# Altium integrated library Lattice CPLD ispMACH.IntLib: 663 symbols (part 24 of 48)
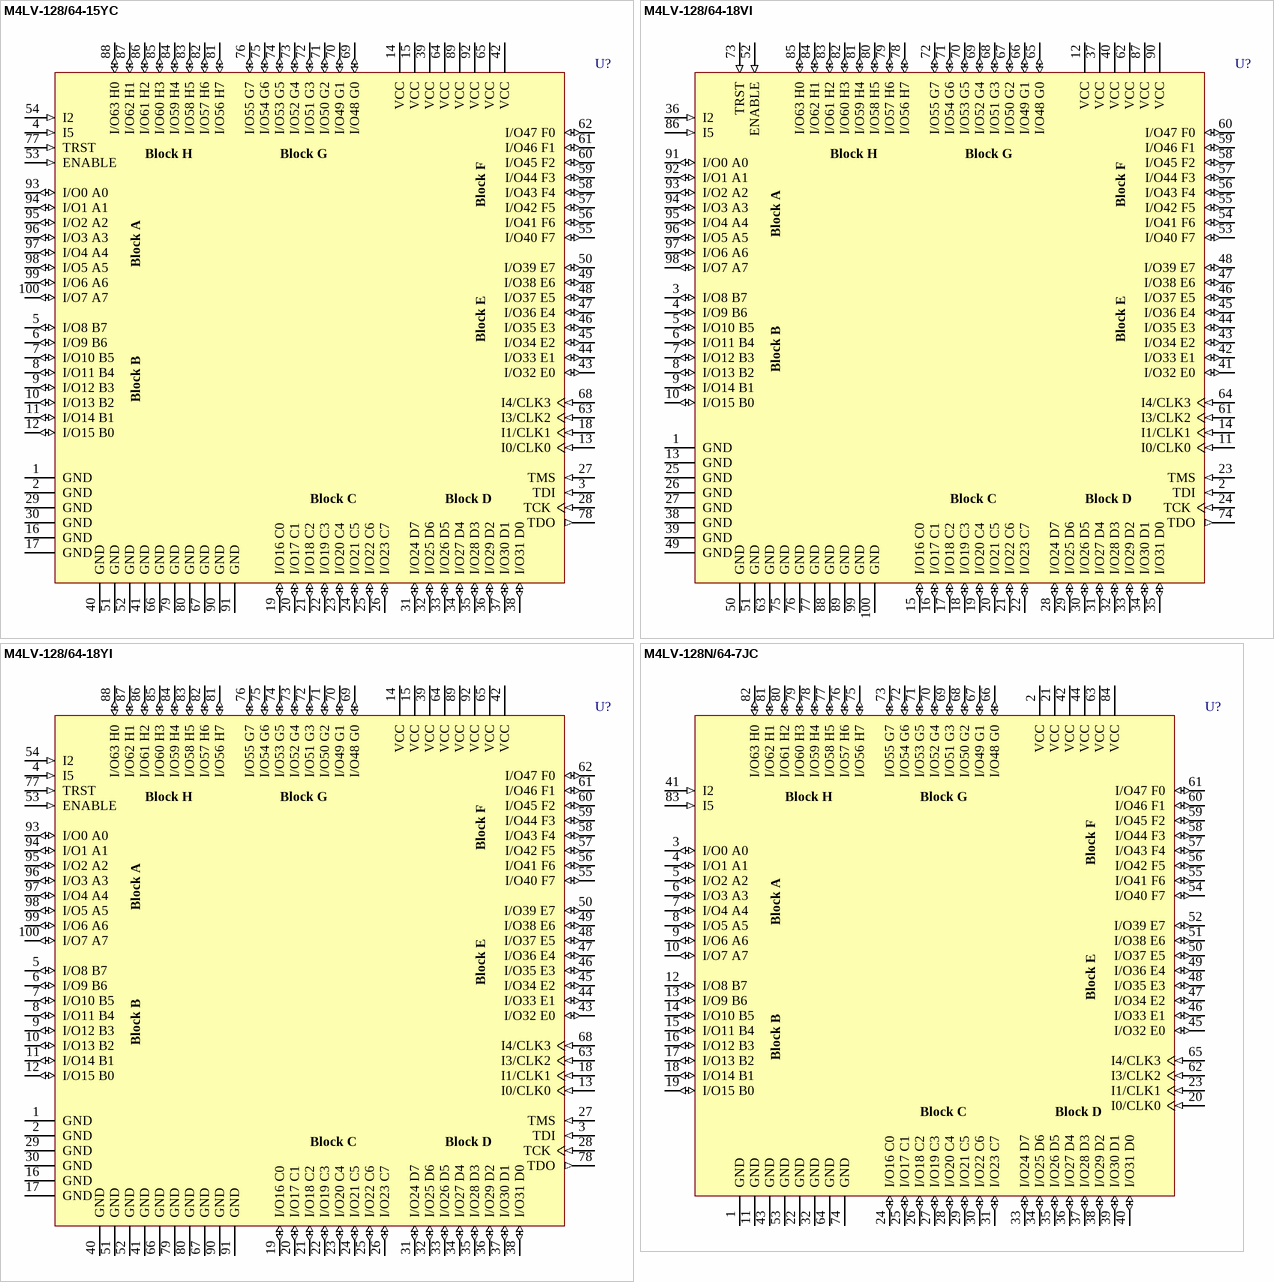
[diagram p329: symbols M4LV-128/64-15YC to M4LV-128N/64-7JC]

## M4LV-128N/64-7JC
designator U?
High-Performance EE CMOS In-System Programmable Logic; Published: 23-Sep-2002; LatestRevisionDate: 13-Apr-2006; LatestRevisionNote: IPC-7351 Footprint Added.; DatasheetVersion: Mar-2000; PackageVersion: pkg_32, Aug-2005; PackageReference: PLCC84; Publisher: Altium Limited; PackageDescription: 84-Pin Leaded Chip Carrier 1.27 mm Pitch; Code_IPC: PLCC-84; ComponentLink1Description: Manufacturer Link; ComponentLink1URL: http://www.latticesemi.com/products/mature/index.cfm; ComponentLink2Description: Datasheet; ComponentLink2URL: http://www.latticesemi.com/lit/docs/datasheets/cpld/mach4.pdf
footprint PLCC84_N (Leaded Chip Carrier, 84-Leads, Body 29.3x29.3mm, Pitch 1.27mm, IPC Medium Density)
footprint PLCC84_L (Leaded Chip Carrier, 84-Leads, Body 29.3x29.3mm, Pitch 1.27mm, IPC High Density)
footprint PLCC84_M (Leaded Chip Carrier, 84-Leads, Body 29.3x29.3mm, Pitch 1.27mm, IPC Low Density)
3D model M4LV-PLCC84 (84-Pin Leaded Chip Carrier 1.27 mm Pitch)
pins: 1 GND (power), 2 VCC (power), 3 I/O0 A0 (io), 4 I/O1 A1 (io), 5 I/O2 A2 (io), 6 I/O3 A3 (io), 7 I/O4 A4 (io), 8 I/O5 A5 (io), 9 I/O6 A6 (io), 10 I/O7 A7 (io), 11 GND (power), 12 I/O8 B7 (io), 13 I/O9 B6 (io), 14 I/O10 B5 (io), 15 I/O11 B4 (io), 16 I/O12 B3 (io), 17 I/O13 B2 (io), 18 I/O14 B1 (io), 19 I/O15 B0 (io), 20 I0/CLK0 (in), 21 VCC (power), 22 GND (power), 23 I1/CLK1 (in), 24 I/O16 C0 (io), 25 I/O17 C1 (io), 26 I/O18 C2 (io), 27 I/O19 C3 (io), 28 I/O20 C4 (io), 29 I/O21 C5 (io), 30 I/O22 C6 (io), 31 I/O23 C7 (io), 32 GND (power), 33 I/O24 D7 (io), 34 I/O25 D6 (io), 35 I/O26 D5 (io), 36 I/O27 D4 (io), 37 I/O28 D3 (io), 38 I/O29 D2 (io), 39 I/O30 D1 (io), 40 I/O31 D0 (io), 41 I2 (in), 42 VCC (power), 43 GND (power), 44 VCC (power), 45 I/O32 E0 (io), 46 I/O33 E1 (io), 47 I/O34 E2 (io), 48 I/O35 E3 (io), 49 I/O36 E4 (io), 50 I/O37 E5 (io), 51 I/O38 E6 (io), 52 I/O39 E7 (io), 53 GND (power), 54 I/O40 F7 (io), 55 I/O41 F6 (io), 56 I/O42 F5 (io), 57 I/O43 F4 (io), 58 I/O44 F3 (io), 59 I/O45 F2 (io), 60 I/O46 F1 (io), 61 I/O47 F0 (io), 62 I3/CLK2 (in), 63 VCC (power), 64 GND (power), 65 I4/CLK3 (in), 66 I/O48 G0 (io), 67 I/O49 G1 (io), 68 I/O50 G2 (io), 69 I/O51 G3 (io), 70 I/O52 G4 (io), 71 I/O53 G5 (io), 72 I/O54 G6 (io), 73 I/O55 G7 (io), 74 GND (power), 75 I/O56 H7 (io), 76 I/O57 H6 (io), 77 I/O58 H5 (io), 78 I/O59 H4 (io), 79 I/O60 H3 (io), 80 I/O61 H2 (io), 81 I/O62 H1 (io), 82 I/O63 H0 (io), 83 I5 (in), 84 VCC (power)
text: Block H; Block G; Block F; Block A; Block E; Block B; Block C; Block D

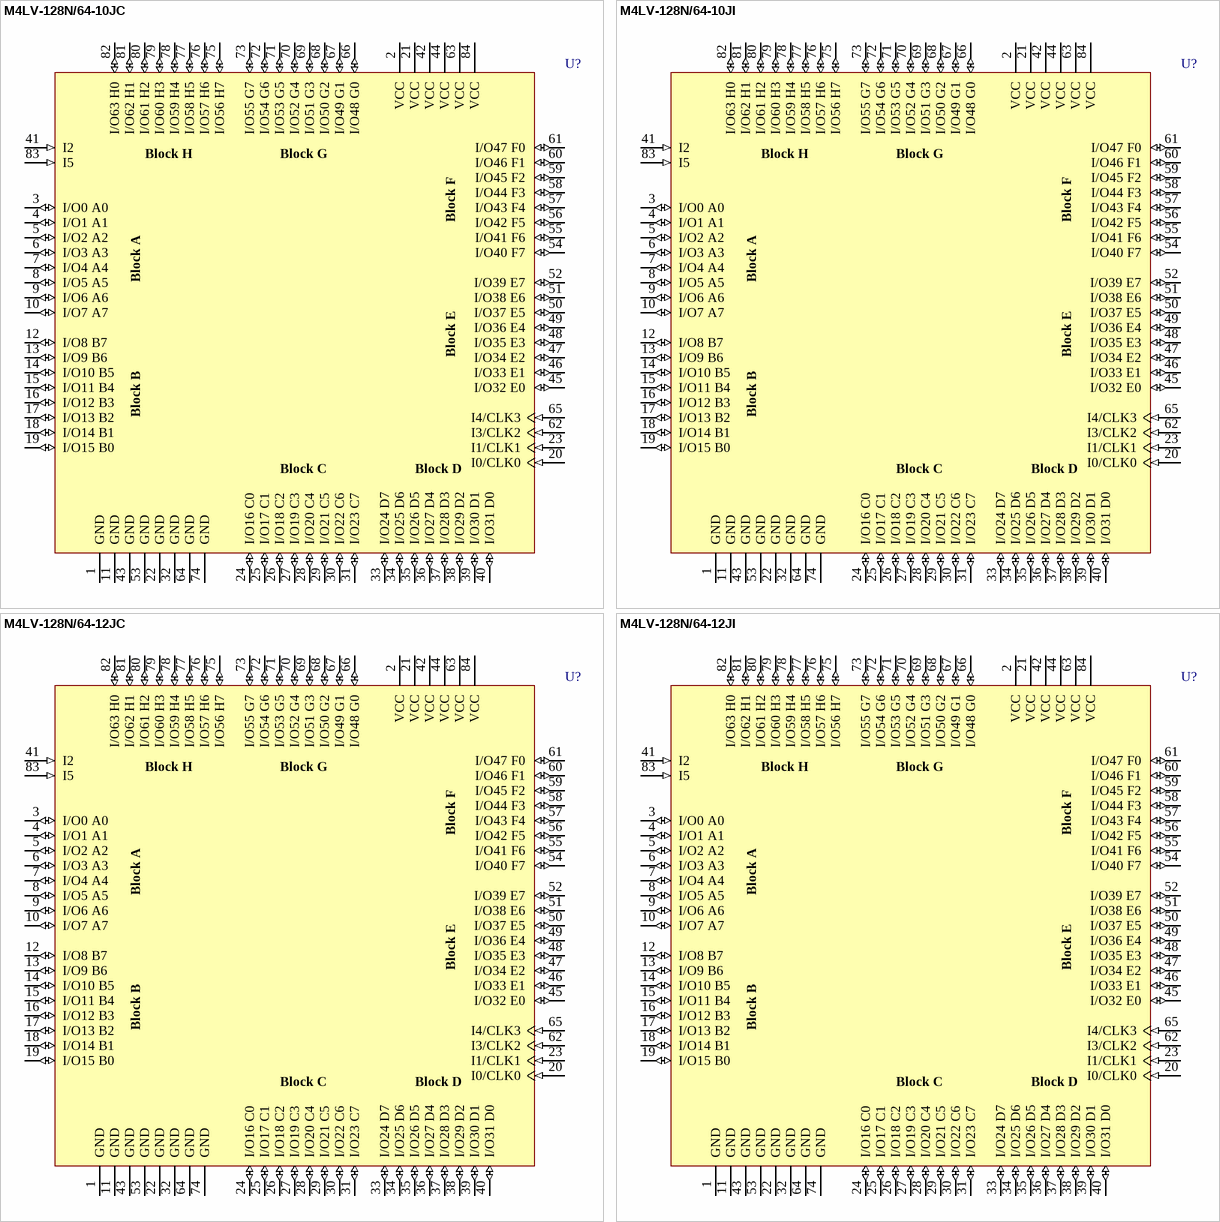
[diagram p141: symbols M4LV-128N/64-10JC to M4LV-128N/64-12JI]

## M4LV-128N/64-10JC
designator U?
High-Performance EE CMOS In-System Programmable Logic; Published: 23-Sep-2002; LatestRevisionDate: 13-Apr-2006; LatestRevisionNote: IPC-7351 Footprint Added.; DatasheetVersion: Mar-2000; PackageVersion: pkg_32, Aug-2005; PackageReference: PLCC84; Publisher: Altium Limited; PackageDescription: 84-Pin Leaded Chip Carrier 1.27 mm Pitch; Code_IPC: PLCC-84; ComponentLink1Description: Manufacturer Link; ComponentLink1URL: http://www.latticesemi.com/products/mature/index.cfm; ComponentLink2Description: Datasheet; ComponentLink2URL: http://www.latticesemi.com/lit/docs/datasheets/cpld/mach4.pdf
footprint PLCC84_N (Leaded Chip Carrier, 84-Leads, Body 29.3x29.3mm, Pitch 1.27mm, IPC Medium Density)
footprint PLCC84_L (Leaded Chip Carrier, 84-Leads, Body 29.3x29.3mm, Pitch 1.27mm, IPC High Density)
footprint PLCC84_M (Leaded Chip Carrier, 84-Leads, Body 29.3x29.3mm, Pitch 1.27mm, IPC Low Density)
3D model M4LV-PLCC84 (84-Pin Leaded Chip Carrier 1.27 mm Pitch)
pins: 1 GND (power), 2 VCC (power), 3 I/O0 A0 (io), 4 I/O1 A1 (io), 5 I/O2 A2 (io), 6 I/O3 A3 (io), 7 I/O4 A4 (io), 8 I/O5 A5 (io), 9 I/O6 A6 (io), 10 I/O7 A7 (io), 11 GND (power), 12 I/O8 B7 (io), 13 I/O9 B6 (io), 14 I/O10 B5 (io), 15 I/O11 B4 (io), 16 I/O12 B3 (io), 17 I/O13 B2 (io), 18 I/O14 B1 (io), 19 I/O15 B0 (io), 20 I0/CLK0 (in), 21 VCC (power), 22 GND (power), 23 I1/CLK1 (in), 24 I/O16 C0 (io), 25 I/O17 C1 (io), 26 I/O18 C2 (io), 27 I/O19 C3 (io), 28 I/O20 C4 (io), 29 I/O21 C5 (io), 30 I/O22 C6 (io), 31 I/O23 C7 (io), 32 GND (power), 33 I/O24 D7 (io), 34 I/O25 D6 (io), 35 I/O26 D5 (io), 36 I/O27 D4 (io), 37 I/O28 D3 (io), 38 I/O29 D2 (io), 39 I/O30 D1 (io), 40 I/O31 D0 (io), 41 I2 (in), 42 VCC (power), 43 GND (power), 44 VCC (power), 45 I/O32 E0 (io), 46 I/O33 E1 (io), 47 I/O34 E2 (io), 48 I/O35 E3 (io), 49 I/O36 E4 (io), 50 I/O37 E5 (io), 51 I/O38 E6 (io), 52 I/O39 E7 (io), 53 GND (power), 54 I/O40 F7 (io), 55 I/O41 F6 (io), 56 I/O42 F5 (io), 57 I/O43 F4 (io), 58 I/O44 F3 (io), 59 I/O45 F2 (io), 60 I/O46 F1 (io), 61 I/O47 F0 (io), 62 I3/CLK2 (in), 63 VCC (power), 64 GND (power), 65 I4/CLK3 (in), 66 I/O48 G0 (io), 67 I/O49 G1 (io), 68 I/O50 G2 (io), 69 I/O51 G3 (io), 70 I/O52 G4 (io), 71 I/O53 G5 (io), 72 I/O54 G6 (io), 73 I/O55 G7 (io), 74 GND (power), 75 I/O56 H7 (io), 76 I/O57 H6 (io), 77 I/O58 H5 (io), 78 I/O59 H4 (io), 79 I/O60 H3 (io), 80 I/O61 H2 (io), 81 I/O62 H1 (io), 82 I/O63 H0 (io), 83 I5 (in), 84 VCC (power)
text: Block H; Block G; Block F; Block A; Block E; Block B; Block C; Block D

## M4LV-128N/64-10JI
designator U?
High-Performance EE CMOS In-System Programmable Logic; Published: 23-Sep-2002; LatestRevisionDate: 13-Apr-2006; LatestRevisionNote: IPC-7351 Footprint Added.; DatasheetVersion: Mar-2000; PackageVersion: pkg_32, Aug-2005; PackageReference: PLCC84; Publisher: Altium Limited; PackageDescription: 84-Pin Leaded Chip Carrier 1.27 mm Pitch; Code_IPC: PLCC-84; ComponentLink1Description: Manufacturer Link; ComponentLink1URL: http://www.latticesemi.com/products/mature/index.cfm; ComponentLink2Description: Datasheet; ComponentLink2URL: http://www.latticesemi.com/lit/docs/datasheets/cpld/mach4.pdf
footprint PLCC84_N (Leaded Chip Carrier, 84-Leads, Body 29.3x29.3mm, Pitch 1.27mm, IPC Medium Density)
footprint PLCC84_L (Leaded Chip Carrier, 84-Leads, Body 29.3x29.3mm, Pitch 1.27mm, IPC High Density)
footprint PLCC84_M (Leaded Chip Carrier, 84-Leads, Body 29.3x29.3mm, Pitch 1.27mm, IPC Low Density)
3D model M4LV-PLCC84 (84-Pin Leaded Chip Carrier 1.27 mm Pitch)
pins: 1 GND (power), 2 VCC (power), 3 I/O0 A0 (io), 4 I/O1 A1 (io), 5 I/O2 A2 (io), 6 I/O3 A3 (io), 7 I/O4 A4 (io), 8 I/O5 A5 (io), 9 I/O6 A6 (io), 10 I/O7 A7 (io), 11 GND (power), 12 I/O8 B7 (io), 13 I/O9 B6 (io), 14 I/O10 B5 (io), 15 I/O11 B4 (io), 16 I/O12 B3 (io), 17 I/O13 B2 (io), 18 I/O14 B1 (io), 19 I/O15 B0 (io), 20 I0/CLK0 (in), 21 VCC (power), 22 GND (power), 23 I1/CLK1 (in), 24 I/O16 C0 (io), 25 I/O17 C1 (io), 26 I/O18 C2 (io), 27 I/O19 C3 (io), 28 I/O20 C4 (io), 29 I/O21 C5 (io), 30 I/O22 C6 (io), 31 I/O23 C7 (io), 32 GND (power), 33 I/O24 D7 (io), 34 I/O25 D6 (io), 35 I/O26 D5 (io), 36 I/O27 D4 (io), 37 I/O28 D3 (io), 38 I/O29 D2 (io), 39 I/O30 D1 (io), 40 I/O31 D0 (io), 41 I2 (in), 42 VCC (power), 43 GND (power), 44 VCC (power), 45 I/O32 E0 (io), 46 I/O33 E1 (io), 47 I/O34 E2 (io), 48 I/O35 E3 (io), 49 I/O36 E4 (io), 50 I/O37 E5 (io), 51 I/O38 E6 (io), 52 I/O39 E7 (io), 53 GND (power), 54 I/O40 F7 (io), 55 I/O41 F6 (io), 56 I/O42 F5 (io), 57 I/O43 F4 (io), 58 I/O44 F3 (io), 59 I/O45 F2 (io), 60 I/O46 F1 (io), 61 I/O47 F0 (io), 62 I3/CLK2 (in), 63 VCC (power), 64 GND (power), 65 I4/CLK3 (in), 66 I/O48 G0 (io), 67 I/O49 G1 (io), 68 I/O50 G2 (io), 69 I/O51 G3 (io), 70 I/O52 G4 (io), 71 I/O53 G5 (io), 72 I/O54 G6 (io), 73 I/O55 G7 (io), 74 GND (power), 75 I/O56 H7 (io), 76 I/O57 H6 (io), 77 I/O58 H5 (io), 78 I/O59 H4 (io), 79 I/O60 H3 (io), 80 I/O61 H2 (io), 81 I/O62 H1 (io), 82 I/O63 H0 (io), 83 I5 (in), 84 VCC (power)
text: Block H; Block G; Block F; Block A; Block E; Block B; Block C; Block D

## M4LV-128N/64-12JC
designator U?
High-Performance EE CMOS In-System Programmable Logic; Published: 23-Sep-2002; LatestRevisionDate: 13-Apr-2006; LatestRevisionNote: IPC-7351 Footprint Added.; DatasheetVersion: Mar-2000; PackageVersion: pkg_32, Aug-2005; PackageReference: PLCC84; Publisher: Altium Limited; PackageDescription: 84-Pin Leaded Chip Carrier 1.27 mm Pitch; Code_IPC: PLCC-84; ComponentLink1Description: Manufacturer Link; ComponentLink1URL: http://www.latticesemi.com/products/mature/index.cfm; ComponentLink2Description: Datasheet; ComponentLink2URL: http://www.latticesemi.com/lit/docs/datasheets/cpld/mach4.pdf
footprint PLCC84_N (Leaded Chip Carrier, 84-Leads, Body 29.3x29.3mm, Pitch 1.27mm, IPC Medium Density)
footprint PLCC84_L (Leaded Chip Carrier, 84-Leads, Body 29.3x29.3mm, Pitch 1.27mm, IPC High Density)
footprint PLCC84_M (Leaded Chip Carrier, 84-Leads, Body 29.3x29.3mm, Pitch 1.27mm, IPC Low Density)
3D model M4LV-PLCC84 (84-Pin Leaded Chip Carrier 1.27 mm Pitch)
pins: 1 GND (power), 2 VCC (power), 3 I/O0 A0 (io), 4 I/O1 A1 (io), 5 I/O2 A2 (io), 6 I/O3 A3 (io), 7 I/O4 A4 (io), 8 I/O5 A5 (io), 9 I/O6 A6 (io), 10 I/O7 A7 (io), 11 GND (power), 12 I/O8 B7 (io), 13 I/O9 B6 (io), 14 I/O10 B5 (io), 15 I/O11 B4 (io), 16 I/O12 B3 (io), 17 I/O13 B2 (io), 18 I/O14 B1 (io), 19 I/O15 B0 (io), 20 I0/CLK0 (in), 21 VCC (power), 22 GND (power), 23 I1/CLK1 (in), 24 I/O16 C0 (io), 25 I/O17 C1 (io), 26 I/O18 C2 (io), 27 I/O19 C3 (io), 28 I/O20 C4 (io), 29 I/O21 C5 (io), 30 I/O22 C6 (io), 31 I/O23 C7 (io), 32 GND (power), 33 I/O24 D7 (io), 34 I/O25 D6 (io), 35 I/O26 D5 (io), 36 I/O27 D4 (io), 37 I/O28 D3 (io), 38 I/O29 D2 (io), 39 I/O30 D1 (io), 40 I/O31 D0 (io), 41 I2 (in), 42 VCC (power), 43 GND (power), 44 VCC (power), 45 I/O32 E0 (io), 46 I/O33 E1 (io), 47 I/O34 E2 (io), 48 I/O35 E3 (io), 49 I/O36 E4 (io), 50 I/O37 E5 (io), 51 I/O38 E6 (io), 52 I/O39 E7 (io), 53 GND (power), 54 I/O40 F7 (io), 55 I/O41 F6 (io), 56 I/O42 F5 (io), 57 I/O43 F4 (io), 58 I/O44 F3 (io), 59 I/O45 F2 (io), 60 I/O46 F1 (io), 61 I/O47 F0 (io), 62 I3/CLK2 (in), 63 VCC (power), 64 GND (power), 65 I4/CLK3 (in), 66 I/O48 G0 (io), 67 I/O49 G1 (io), 68 I/O50 G2 (io), 69 I/O51 G3 (io), 70 I/O52 G4 (io), 71 I/O53 G5 (io), 72 I/O54 G6 (io), 73 I/O55 G7 (io), 74 GND (power), 75 I/O56 H7 (io), 76 I/O57 H6 (io), 77 I/O58 H5 (io), 78 I/O59 H4 (io), 79 I/O60 H3 (io), 80 I/O61 H2 (io), 81 I/O62 H1 (io), 82 I/O63 H0 (io), 83 I5 (in), 84 VCC (power)
text: Block H; Block G; Block F; Block A; Block E; Block B; Block C; Block D

## M4LV-128N/64-12JI
designator U?
High-Performance EE CMOS In-System Programmable Logic; Published: 23-Sep-2002; LatestRevisionDate: 13-Apr-2006; LatestRevisionNote: IPC-7351 Footprint Added.; DatasheetVersion: Mar-2000; PackageVersion: pkg_32, Aug-2005; PackageReference: PLCC84; Publisher: Altium Limited; PackageDescription: 84-Pin Leaded Chip Carrier 1.27 mm Pitch; Code_IPC: PLCC-84; ComponentLink1Description: Manufacturer Link; ComponentLink1URL: http://www.latticesemi.com/products/mature/index.cfm; ComponentLink2Description: Datasheet; ComponentLink2URL: http://www.latticesemi.com/lit/docs/datasheets/cpld/mach4.pdf
footprint PLCC84_N (Leaded Chip Carrier, 84-Leads, Body 29.3x29.3mm, Pitch 1.27mm, IPC Medium Density)
footprint PLCC84_L (Leaded Chip Carrier, 84-Leads, Body 29.3x29.3mm, Pitch 1.27mm, IPC High Density)
footprint PLCC84_M (Leaded Chip Carrier, 84-Leads, Body 29.3x29.3mm, Pitch 1.27mm, IPC Low Density)
3D model M4LV-PLCC84 (84-Pin Leaded Chip Carrier 1.27 mm Pitch)
pins: 1 GND (power), 2 VCC (power), 3 I/O0 A0 (io), 4 I/O1 A1 (io), 5 I/O2 A2 (io), 6 I/O3 A3 (io), 7 I/O4 A4 (io), 8 I/O5 A5 (io), 9 I/O6 A6 (io), 10 I/O7 A7 (io), 11 GND (power), 12 I/O8 B7 (io), 13 I/O9 B6 (io), 14 I/O10 B5 (io), 15 I/O11 B4 (io), 16 I/O12 B3 (io), 17 I/O13 B2 (io), 18 I/O14 B1 (io), 19 I/O15 B0 (io), 20 I0/CLK0 (in), 21 VCC (power), 22 GND (power), 23 I1/CLK1 (in), 24 I/O16 C0 (io), 25 I/O17 C1 (io), 26 I/O18 C2 (io), 27 I/O19 C3 (io), 28 I/O20 C4 (io), 29 I/O21 C5 (io), 30 I/O22 C6 (io), 31 I/O23 C7 (io), 32 GND (power), 33 I/O24 D7 (io), 34 I/O25 D6 (io), 35 I/O26 D5 (io), 36 I/O27 D4 (io), 37 I/O28 D3 (io), 38 I/O29 D2 (io), 39 I/O30 D1 (io), 40 I/O31 D0 (io), 41 I2 (in), 42 VCC (power), 43 GND (power), 44 VCC (power), 45 I/O32 E0 (io), 46 I/O33 E1 (io), 47 I/O34 E2 (io), 48 I/O35 E3 (io), 49 I/O36 E4 (io), 50 I/O37 E5 (io), 51 I/O38 E6 (io), 52 I/O39 E7 (io), 53 GND (power), 54 I/O40 F7 (io), 55 I/O41 F6 (io), 56 I/O42 F5 (io), 57 I/O43 F4 (io), 58 I/O44 F3 (io), 59 I/O45 F2 (io), 60 I/O46 F1 (io), 61 I/O47 F0 (io), 62 I3/CLK2 (in), 63 VCC (power), 64 GND (power), 65 I4/CLK3 (in), 66 I/O48 G0 (io), 67 I/O49 G1 (io), 68 I/O50 G2 (io), 69 I/O51 G3 (io), 70 I/O52 G4 (io), 71 I/O53 G5 (io), 72 I/O54 G6 (io), 73 I/O55 G7 (io), 74 GND (power), 75 I/O56 H7 (io), 76 I/O57 H6 (io), 77 I/O58 H5 (io), 78 I/O59 H4 (io), 79 I/O60 H3 (io), 80 I/O61 H2 (io), 81 I/O62 H1 (io), 82 I/O63 H0 (io), 83 I5 (in), 84 VCC (power)
text: Block H; Block G; Block F; Block A; Block E; Block B; Block C; Block D

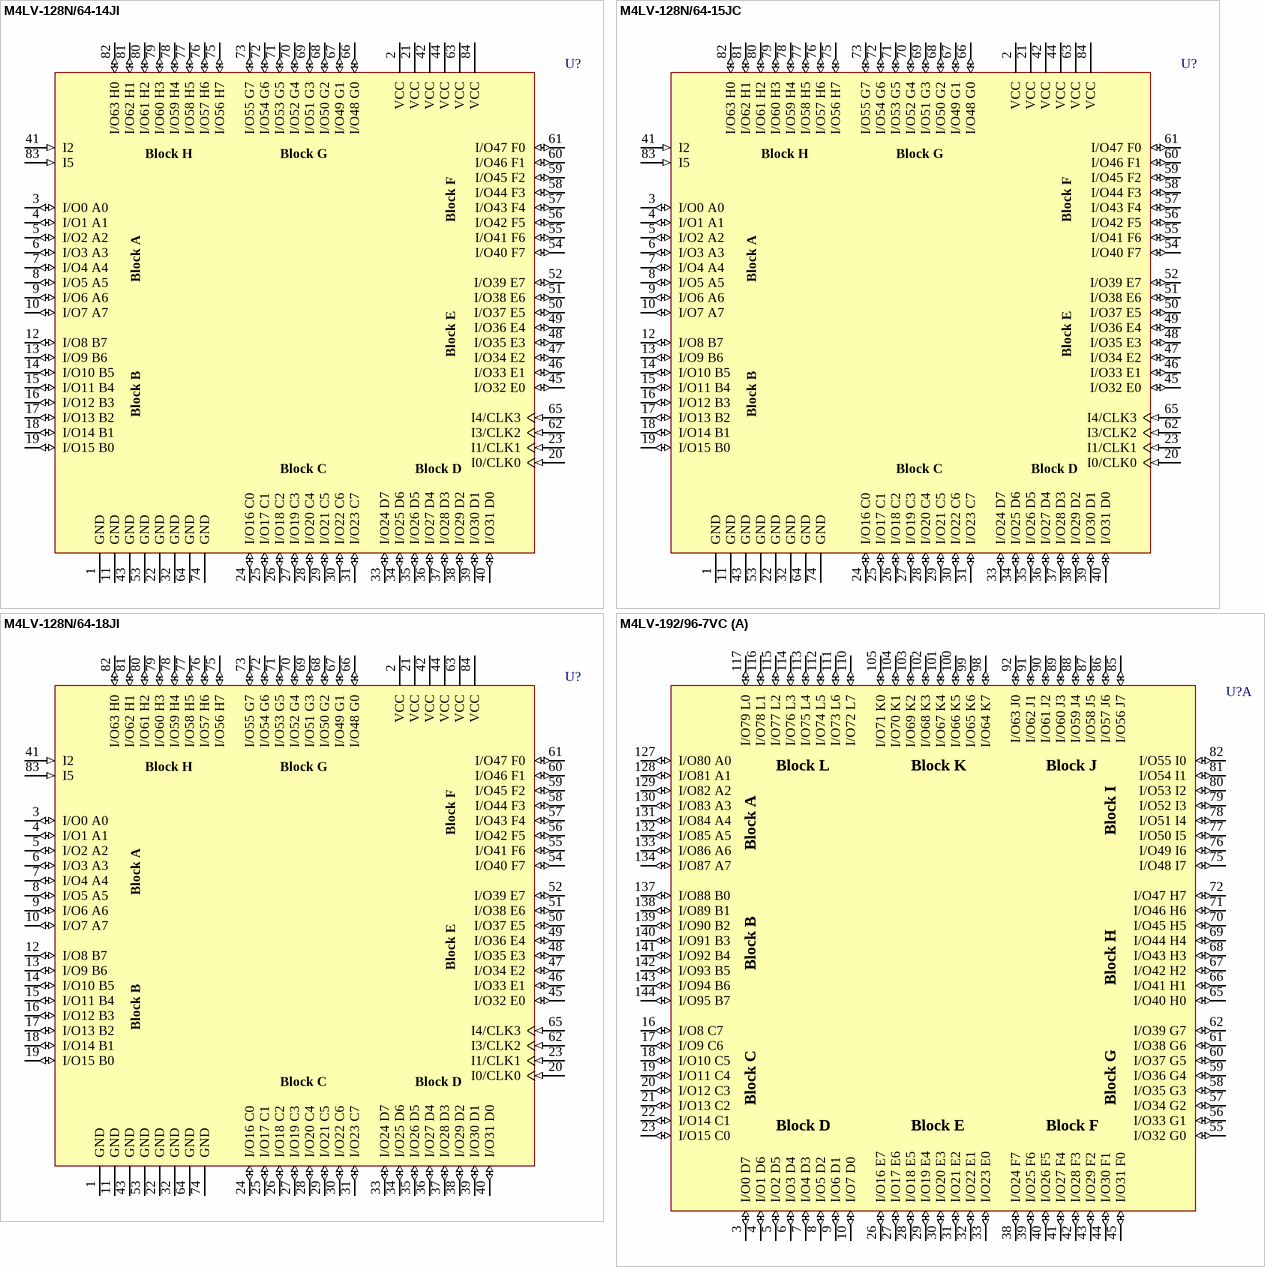
[diagram p142: symbols M4LV-128N/64-14JI to M4LV-192/96-7VC]

## M4LV-128N/64-14JI
designator U?
High-Performance EE CMOS In-System Programmable Logic; Published: 23-Sep-2002; LatestRevisionDate: 13-Apr-2006; LatestRevisionNote: IPC-7351 Footprint Added.; DatasheetVersion: Mar-2000; PackageVersion: pkg_32, Aug-2005; PackageReference: PLCC84; Publisher: Altium Limited; PackageDescription: 84-Pin Leaded Chip Carrier 1.27 mm Pitch; Code_IPC: PLCC-84; ComponentLink1Description: Manufacturer Link; ComponentLink1URL: http://www.latticesemi.com/products/mature/index.cfm; ComponentLink2Description: Datasheet; ComponentLink2URL: http://www.latticesemi.com/lit/docs/datasheets/cpld/mach4.pdf
footprint PLCC84_N (Leaded Chip Carrier, 84-Leads, Body 29.3x29.3mm, Pitch 1.27mm, IPC Medium Density)
footprint PLCC84_L (Leaded Chip Carrier, 84-Leads, Body 29.3x29.3mm, Pitch 1.27mm, IPC High Density)
footprint PLCC84_M (Leaded Chip Carrier, 84-Leads, Body 29.3x29.3mm, Pitch 1.27mm, IPC Low Density)
3D model M4LV-PLCC84 (84-Pin Leaded Chip Carrier 1.27 mm Pitch)
pins: 1 GND (power), 2 VCC (power), 3 I/O0 A0 (io), 4 I/O1 A1 (io), 5 I/O2 A2 (io), 6 I/O3 A3 (io), 7 I/O4 A4 (io), 8 I/O5 A5 (io), 9 I/O6 A6 (io), 10 I/O7 A7 (io), 11 GND (power), 12 I/O8 B7 (io), 13 I/O9 B6 (io), 14 I/O10 B5 (io), 15 I/O11 B4 (io), 16 I/O12 B3 (io), 17 I/O13 B2 (io), 18 I/O14 B1 (io), 19 I/O15 B0 (io), 20 I0/CLK0 (in), 21 VCC (power), 22 GND (power), 23 I1/CLK1 (in), 24 I/O16 C0 (io), 25 I/O17 C1 (io), 26 I/O18 C2 (io), 27 I/O19 C3 (io), 28 I/O20 C4 (io), 29 I/O21 C5 (io), 30 I/O22 C6 (io), 31 I/O23 C7 (io), 32 GND (power), 33 I/O24 D7 (io), 34 I/O25 D6 (io), 35 I/O26 D5 (io), 36 I/O27 D4 (io), 37 I/O28 D3 (io), 38 I/O29 D2 (io), 39 I/O30 D1 (io), 40 I/O31 D0 (io), 41 I2 (in), 42 VCC (power), 43 GND (power), 44 VCC (power), 45 I/O32 E0 (io), 46 I/O33 E1 (io), 47 I/O34 E2 (io), 48 I/O35 E3 (io), 49 I/O36 E4 (io), 50 I/O37 E5 (io), 51 I/O38 E6 (io), 52 I/O39 E7 (io), 53 GND (power), 54 I/O40 F7 (io), 55 I/O41 F6 (io), 56 I/O42 F5 (io), 57 I/O43 F4 (io), 58 I/O44 F3 (io), 59 I/O45 F2 (io), 60 I/O46 F1 (io), 61 I/O47 F0 (io), 62 I3/CLK2 (in), 63 VCC (power), 64 GND (power), 65 I4/CLK3 (in), 66 I/O48 G0 (io), 67 I/O49 G1 (io), 68 I/O50 G2 (io), 69 I/O51 G3 (io), 70 I/O52 G4 (io), 71 I/O53 G5 (io), 72 I/O54 G6 (io), 73 I/O55 G7 (io), 74 GND (power), 75 I/O56 H7 (io), 76 I/O57 H6 (io), 77 I/O58 H5 (io), 78 I/O59 H4 (io), 79 I/O60 H3 (io), 80 I/O61 H2 (io), 81 I/O62 H1 (io), 82 I/O63 H0 (io), 83 I5 (in), 84 VCC (power)
text: Block H; Block G; Block F; Block A; Block E; Block B; Block C; Block D

## M4LV-128N/64-15JC
designator U?
High-Performance EE CMOS In-System Programmable Logic; Published: 23-Sep-2002; LatestRevisionDate: 13-Apr-2006; LatestRevisionNote: IPC-7351 Footprint Added.; DatasheetVersion: Mar-2000; PackageVersion: pkg_32, Aug-2005; PackageReference: PLCC84; Publisher: Altium Limited; PackageDescription: 84-Pin Leaded Chip Carrier 1.27 mm Pitch; Code_IPC: PLCC-84; ComponentLink1Description: Manufacturer Link; ComponentLink1URL: http://www.latticesemi.com/products/mature/index.cfm; ComponentLink2Description: Datasheet; ComponentLink2URL: http://www.latticesemi.com/lit/docs/datasheets/cpld/mach4.pdf
footprint PLCC84_N (Leaded Chip Carrier, 84-Leads, Body 29.3x29.3mm, Pitch 1.27mm, IPC Medium Density)
footprint PLCC84_L (Leaded Chip Carrier, 84-Leads, Body 29.3x29.3mm, Pitch 1.27mm, IPC High Density)
footprint PLCC84_M (Leaded Chip Carrier, 84-Leads, Body 29.3x29.3mm, Pitch 1.27mm, IPC Low Density)
3D model M4LV-PLCC84 (84-Pin Leaded Chip Carrier 1.27 mm Pitch)
pins: 1 GND (power), 2 VCC (power), 3 I/O0 A0 (io), 4 I/O1 A1 (io), 5 I/O2 A2 (io), 6 I/O3 A3 (io), 7 I/O4 A4 (io), 8 I/O5 A5 (io), 9 I/O6 A6 (io), 10 I/O7 A7 (io), 11 GND (power), 12 I/O8 B7 (io), 13 I/O9 B6 (io), 14 I/O10 B5 (io), 15 I/O11 B4 (io), 16 I/O12 B3 (io), 17 I/O13 B2 (io), 18 I/O14 B1 (io), 19 I/O15 B0 (io), 20 I0/CLK0 (in), 21 VCC (power), 22 GND (power), 23 I1/CLK1 (in), 24 I/O16 C0 (io), 25 I/O17 C1 (io), 26 I/O18 C2 (io), 27 I/O19 C3 (io), 28 I/O20 C4 (io), 29 I/O21 C5 (io), 30 I/O22 C6 (io), 31 I/O23 C7 (io), 32 GND (power), 33 I/O24 D7 (io), 34 I/O25 D6 (io), 35 I/O26 D5 (io), 36 I/O27 D4 (io), 37 I/O28 D3 (io), 38 I/O29 D2 (io), 39 I/O30 D1 (io), 40 I/O31 D0 (io), 41 I2 (in), 42 VCC (power), 43 GND (power), 44 VCC (power), 45 I/O32 E0 (io), 46 I/O33 E1 (io), 47 I/O34 E2 (io), 48 I/O35 E3 (io), 49 I/O36 E4 (io), 50 I/O37 E5 (io), 51 I/O38 E6 (io), 52 I/O39 E7 (io), 53 GND (power), 54 I/O40 F7 (io), 55 I/O41 F6 (io), 56 I/O42 F5 (io), 57 I/O43 F4 (io), 58 I/O44 F3 (io), 59 I/O45 F2 (io), 60 I/O46 F1 (io), 61 I/O47 F0 (io), 62 I3/CLK2 (in), 63 VCC (power), 64 GND (power), 65 I4/CLK3 (in), 66 I/O48 G0 (io), 67 I/O49 G1 (io), 68 I/O50 G2 (io), 69 I/O51 G3 (io), 70 I/O52 G4 (io), 71 I/O53 G5 (io), 72 I/O54 G6 (io), 73 I/O55 G7 (io), 74 GND (power), 75 I/O56 H7 (io), 76 I/O57 H6 (io), 77 I/O58 H5 (io), 78 I/O59 H4 (io), 79 I/O60 H3 (io), 80 I/O61 H2 (io), 81 I/O62 H1 (io), 82 I/O63 H0 (io), 83 I5 (in), 84 VCC (power)
text: Block H; Block G; Block F; Block A; Block E; Block B; Block C; Block D

## M4LV-128N/64-18JI
designator U?
High-Performance EE CMOS In-System Programmable Logic; Published: 23-Sep-2002; LatestRevisionDate: 13-Apr-2006; LatestRevisionNote: IPC-7351 Footprint Added.; DatasheetVersion: Mar-2000; PackageVersion: pkg_32, Aug-2005; PackageReference: PLCC84; Publisher: Altium Limited; PackageDescription: 84-Pin Leaded Chip Carrier 1.27 mm Pitch; Code_IPC: PLCC-84; ComponentLink1Description: Manufacturer Link; ComponentLink1URL: http://www.latticesemi.com/products/mature/index.cfm; ComponentLink2Description: Datasheet; ComponentLink2URL: http://www.latticesemi.com/lit/docs/datasheets/cpld/mach4.pdf
footprint PLCC84_N (Leaded Chip Carrier, 84-Leads, Body 29.3x29.3mm, Pitch 1.27mm, IPC Medium Density)
footprint PLCC84_L (Leaded Chip Carrier, 84-Leads, Body 29.3x29.3mm, Pitch 1.27mm, IPC High Density)
footprint PLCC84_M (Leaded Chip Carrier, 84-Leads, Body 29.3x29.3mm, Pitch 1.27mm, IPC Low Density)
3D model M4LV-PLCC84 (84-Pin Leaded Chip Carrier 1.27 mm Pitch)
pins: 1 GND (power), 2 VCC (power), 3 I/O0 A0 (io), 4 I/O1 A1 (io), 5 I/O2 A2 (io), 6 I/O3 A3 (io), 7 I/O4 A4 (io), 8 I/O5 A5 (io), 9 I/O6 A6 (io), 10 I/O7 A7 (io), 11 GND (power), 12 I/O8 B7 (io), 13 I/O9 B6 (io), 14 I/O10 B5 (io), 15 I/O11 B4 (io), 16 I/O12 B3 (io), 17 I/O13 B2 (io), 18 I/O14 B1 (io), 19 I/O15 B0 (io), 20 I0/CLK0 (in), 21 VCC (power), 22 GND (power), 23 I1/CLK1 (in), 24 I/O16 C0 (io), 25 I/O17 C1 (io), 26 I/O18 C2 (io), 27 I/O19 C3 (io), 28 I/O20 C4 (io), 29 I/O21 C5 (io), 30 I/O22 C6 (io), 31 I/O23 C7 (io), 32 GND (power), 33 I/O24 D7 (io), 34 I/O25 D6 (io), 35 I/O26 D5 (io), 36 I/O27 D4 (io), 37 I/O28 D3 (io), 38 I/O29 D2 (io), 39 I/O30 D1 (io), 40 I/O31 D0 (io), 41 I2 (in), 42 VCC (power), 43 GND (power), 44 VCC (power), 45 I/O32 E0 (io), 46 I/O33 E1 (io), 47 I/O34 E2 (io), 48 I/O35 E3 (io), 49 I/O36 E4 (io), 50 I/O37 E5 (io), 51 I/O38 E6 (io), 52 I/O39 E7 (io), 53 GND (power), 54 I/O40 F7 (io), 55 I/O41 F6 (io), 56 I/O42 F5 (io), 57 I/O43 F4 (io), 58 I/O44 F3 (io), 59 I/O45 F2 (io), 60 I/O46 F1 (io), 61 I/O47 F0 (io), 62 I3/CLK2 (in), 63 VCC (power), 64 GND (power), 65 I4/CLK3 (in), 66 I/O48 G0 (io), 67 I/O49 G1 (io), 68 I/O50 G2 (io), 69 I/O51 G3 (io), 70 I/O52 G4 (io), 71 I/O53 G5 (io), 72 I/O54 G6 (io), 73 I/O55 G7 (io), 74 GND (power), 75 I/O56 H7 (io), 76 I/O57 H6 (io), 77 I/O58 H5 (io), 78 I/O59 H4 (io), 79 I/O60 H3 (io), 80 I/O61 H2 (io), 81 I/O62 H1 (io), 82 I/O63 H0 (io), 83 I5 (in), 84 VCC (power)
text: Block H; Block G; Block F; Block A; Block E; Block B; Block C; Block D

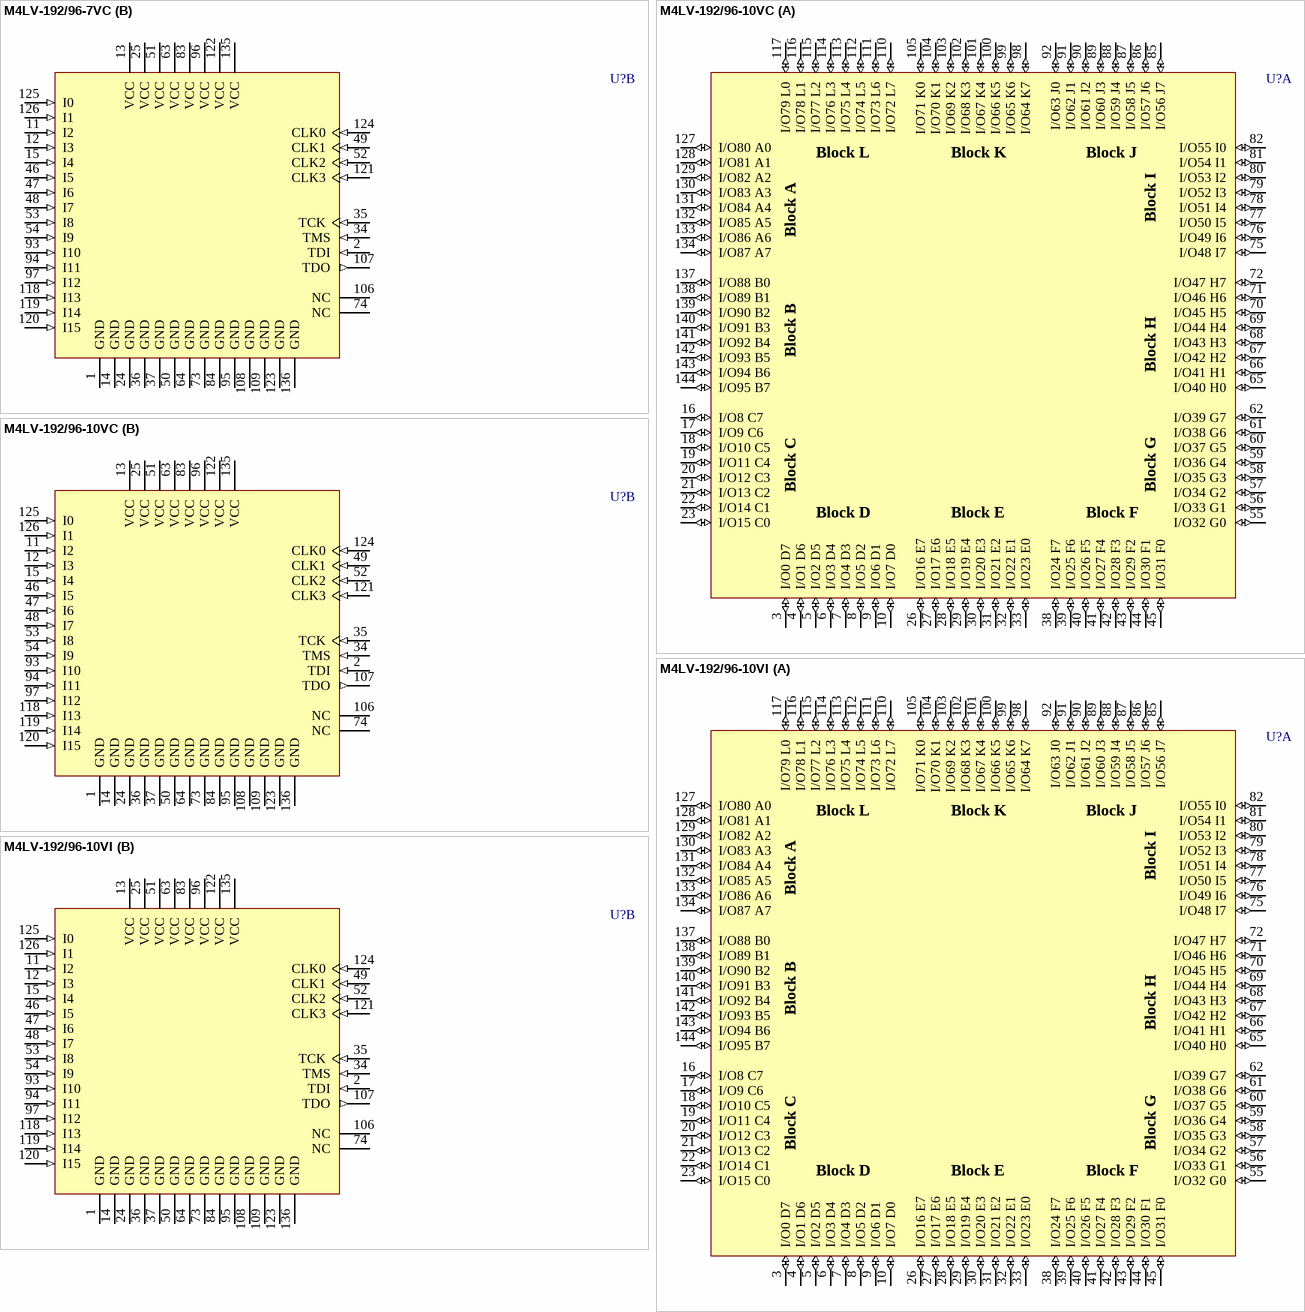
[diagram p143: symbols M4LV-192/96-7VC to M4LV-192/96-10VI]

## M4LV-192/96-7VC
designator U?
High-Performance EE CMOS In-System Programmable Logic; Published: 23-Sep-2002; LatestRevisionDate: 13-Apr-2006; LatestRevisionNote: IPC-7351 Footprint Added.; DatasheetVersion: Mar-2000; PackageVersion: pkg_32, Aug-2005; PackageReference: TQFP144; Publisher: Altium Limited; PackageDescription: 144-Pin Thin Quad Flat Pack (TQFP144); Code_JEDEC: MS-026-BFB; ComponentLink1Description: Manufacturer Link; ComponentLink1URL: http://www.latticesemi.com/products/mature/index.cfm; ComponentLink2Description: Datasheet; ComponentLink2URL: http://www.latticesemi.com/lit/docs/datasheets/cpld/mach4.pdf
footprint TQFP144_N (Thin QFP, 144-Leads, Body 20x20mm, Pitch 0.5mm, IPC Medium Density)
footprint TQFP144_L (Thin QFP, 144-Leads, Body 20x20mm, Pitch 0.5mm, IPC High Density)
footprint TQFP144_M (Thin QFP, 144-Leads, Body 20x20mm, Pitch 0.5mm, IPC Low Density)
3D model M4LV-TQFP144 (144-Pin Thin Quad Flat Pack (TQFP144))
part A pins: 3 I/O0 D7 (io), 4 I/O1 D6 (io), 5 I/O2 D5 (io), 6 I/O3 D4 (io), 7 I/O4 D3 (io), 8 I/O5 D2 (io), 9 I/O6 D1 (io), 10 I/O7 D0 (io), 16 I/O8 C7 (io), 17 I/O9 C6 (io), 18 I/O10 C5 (io), 19 I/O11 C4 (io), 20 I/O12 C3 (io), 21 I/O13 C2 (io), 22 I/O14 C1 (io), 23 I/O15 C0 (io), 26 I/O16 E7 (io), 27 I/O17 E6 (io), 28 I/O18 E5 (io), 29 I/O19 E4 (io), 30 I/O20 E3 (io), 31 I/O21 E2 (io), 32 I/O22 E1 (io), 33 I/O23 E0 (io), 38 I/O24 F7 (io), 39 I/O25 F6 (io), 40 I/O26 F5 (io), 41 I/O27 F4 (io), 42 I/O28 F3 (io), 43 I/O29 F2 (io), 44 I/O30 F1 (io), 45 I/O31 F0 (io), 55 I/O32 G0 (io), 56 I/O33 G1 (io), 57 I/O34 G2 (io), 58 I/O35 G3 (io), 59 I/O36 G4 (io), 60 I/O37 G5 (io), 61 I/O38 G6 (io), 62 I/O39 G7 (io), 65 I/O40 H0 (io), 66 I/O41 H1 (io), 67 I/O42 H2 (io), 68 I/O43 H3 (io), 69 I/O44 H4 (io), 70 I/O45 H5 (io), 71 I/O46 H6 (io), 72 I/O47 H7 (io), 75 I/O48 I7 (io), 76 I/O49 I6 (io), 77 I/O50 I5 (io), 78 I/O51 I4 (io), 79 I/O52 I3 (io), 80 I/O53 I2 (io), 81 I/O54 I1 (io), 82 I/O55 I0 (io), 85 I/O56 J7 (io), 86 I/O57 J6 (io), 87 I/O58 J5 (io), 88 I/O59 J4 (io), 89 I/O60 J3 (io), 90 I/O61 J2 (io), 91 I/O62 J1 (io), 92 I/O63 J0 (io), 98 I/O64 K7 (io), 99 I/O65 K6 (io), 100 I/O66 K5 (io), 101 I/O67 K4 (io), 102 I/O68 K3 (io), 103 I/O69 K2 (io), 104 I/O70 K1 (io), 105 I/O71 K0 (io), 110 I/O72 L7 (io), 111 I/O73 L6 (io), 112 I/O74 L5 (io), 113 I/O75 L4 (io), 114 I/O76 L3 (io), 115 I/O77 L2 (io), 116 I/O78 L1 (io), 117 I/O79 L0 (io), 127 I/O80 A0 (io), 128 I/O81 A1 (io), 129 I/O82 A2 (io), 130 I/O83 A3 (io), 131 I/O84 A4 (io), 132 I/O85 A5 (io), 133 I/O86 A6 (io), 134 I/O87 A7 (io), 137 I/O88 B0 (io), 138 I/O89 B1 (io), 139 I/O90 B2 (io), 140 I/O91 B3 (io), 141 I/O92 B4 (io), 142 I/O93 B5 (io), 143 I/O94 B6 (io), 144 I/O95 B7 (io)
part B pins: 1 GND (power), 2 TDI (in), 11 I2 (in), 12 I3 (in), 13 VCC (power), 14 GND (power), 15 I4 (in), 24 GND (power), 25 VCC (power), 34 TMS (in), 35 TCK (in), 36 GND (power), 37 GND (power), 46 I5 (in), 47 I6 (in), 48 I7 (in), 49 CLK1 (in), 50 GND (power), 51 VCC (power), 52 CLK2 (in), 53 I8 (in), 54 I9 (in), 63 VCC (power), 64 GND (power), 73 GND (power), 74 NC, 83 VCC (power), 84 GND (power), 93 I10 (in), 94 I11 (in), 95 GND (power), 96 VCC (power), 97 I12 (in), 106 NC, 107 TDO (out), 108 GND (power), 109 GND (power), 118 I13 (in), 119 I14 (in), 120 I15 (in), 121 CLK3 (in), 122 VCC (power), 123 GND (power), 124 CLK0 (in), 125 I0 (in), 126 I1 (in), 135 VCC (power), 136 GND (power)
part A text: Block L; Block K; Block J; Block I; Block A; Block B; Block H; Block C; Block G; Block D; Block E; Block F

## M4LV-192/96-10VC
designator U?
High-Performance EE CMOS In-System Programmable Logic; Published: 23-Sep-2002; LatestRevisionDate: 13-Apr-2006; LatestRevisionNote: IPC-7351 Footprint Added.; DatasheetVersion: Mar-2000; PackageVersion: pkg_32, Aug-2005; PackageReference: TQFP144; Publisher: Altium Limited; PackageDescription: 144-Pin Thin Quad Flat Pack (TQFP144); Code_JEDEC: MS-026-BFB; ComponentLink1Description: Manufacturer Link; ComponentLink1URL: http://www.latticesemi.com/products/mature/index.cfm; ComponentLink2Description: Datasheet; ComponentLink2URL: http://www.latticesemi.com/lit/docs/datasheets/cpld/mach4.pdf
footprint TQFP144_N (Thin QFP, 144-Leads, Body 20x20mm, Pitch 0.5mm, IPC Medium Density)
footprint TQFP144_L (Thin QFP, 144-Leads, Body 20x20mm, Pitch 0.5mm, IPC High Density)
footprint TQFP144_M (Thin QFP, 144-Leads, Body 20x20mm, Pitch 0.5mm, IPC Low Density)
3D model M4LV-TQFP144 (144-Pin Thin Quad Flat Pack (TQFP144))
part A pins: 3 I/O0 D7 (io), 4 I/O1 D6 (io), 5 I/O2 D5 (io), 6 I/O3 D4 (io), 7 I/O4 D3 (io), 8 I/O5 D2 (io), 9 I/O6 D1 (io), 10 I/O7 D0 (io), 16 I/O8 C7 (io), 17 I/O9 C6 (io), 18 I/O10 C5 (io), 19 I/O11 C4 (io), 20 I/O12 C3 (io), 21 I/O13 C2 (io), 22 I/O14 C1 (io), 23 I/O15 C0 (io), 26 I/O16 E7 (io), 27 I/O17 E6 (io), 28 I/O18 E5 (io), 29 I/O19 E4 (io), 30 I/O20 E3 (io), 31 I/O21 E2 (io), 32 I/O22 E1 (io), 33 I/O23 E0 (io), 38 I/O24 F7 (io), 39 I/O25 F6 (io), 40 I/O26 F5 (io), 41 I/O27 F4 (io), 42 I/O28 F3 (io), 43 I/O29 F2 (io), 44 I/O30 F1 (io), 45 I/O31 F0 (io), 55 I/O32 G0 (io), 56 I/O33 G1 (io), 57 I/O34 G2 (io), 58 I/O35 G3 (io), 59 I/O36 G4 (io), 60 I/O37 G5 (io), 61 I/O38 G6 (io), 62 I/O39 G7 (io), 65 I/O40 H0 (io), 66 I/O41 H1 (io), 67 I/O42 H2 (io), 68 I/O43 H3 (io), 69 I/O44 H4 (io), 70 I/O45 H5 (io), 71 I/O46 H6 (io), 72 I/O47 H7 (io), 75 I/O48 I7 (io), 76 I/O49 I6 (io), 77 I/O50 I5 (io), 78 I/O51 I4 (io), 79 I/O52 I3 (io), 80 I/O53 I2 (io), 81 I/O54 I1 (io), 82 I/O55 I0 (io), 85 I/O56 J7 (io), 86 I/O57 J6 (io), 87 I/O58 J5 (io), 88 I/O59 J4 (io), 89 I/O60 J3 (io), 90 I/O61 J2 (io), 91 I/O62 J1 (io), 92 I/O63 J0 (io), 98 I/O64 K7 (io), 99 I/O65 K6 (io), 100 I/O66 K5 (io), 101 I/O67 K4 (io), 102 I/O68 K3 (io), 103 I/O69 K2 (io), 104 I/O70 K1 (io), 105 I/O71 K0 (io), 110 I/O72 L7 (io), 111 I/O73 L6 (io), 112 I/O74 L5 (io), 113 I/O75 L4 (io), 114 I/O76 L3 (io), 115 I/O77 L2 (io), 116 I/O78 L1 (io), 117 I/O79 L0 (io), 127 I/O80 A0 (io), 128 I/O81 A1 (io), 129 I/O82 A2 (io), 130 I/O83 A3 (io), 131 I/O84 A4 (io), 132 I/O85 A5 (io), 133 I/O86 A6 (io), 134 I/O87 A7 (io), 137 I/O88 B0 (io), 138 I/O89 B1 (io), 139 I/O90 B2 (io), 140 I/O91 B3 (io), 141 I/O92 B4 (io), 142 I/O93 B5 (io), 143 I/O94 B6 (io), 144 I/O95 B7 (io)
part B pins: 1 GND (power), 2 TDI (in), 11 I2 (in), 12 I3 (in), 13 VCC (power), 14 GND (power), 15 I4 (in), 24 GND (power), 25 VCC (power), 34 TMS (in), 35 TCK (in), 36 GND (power), 37 GND (power), 46 I5 (in), 47 I6 (in), 48 I7 (in), 49 CLK1 (in), 50 GND (power), 51 VCC (power), 52 CLK2 (in), 53 I8 (in), 54 I9 (in), 63 VCC (power), 64 GND (power), 73 GND (power), 74 NC, 83 VCC (power), 84 GND (power), 93 I10 (in), 94 I11 (in), 95 GND (power), 96 VCC (power), 97 I12 (in), 106 NC, 107 TDO (out), 108 GND (power), 109 GND (power), 118 I13 (in), 119 I14 (in), 120 I15 (in), 121 CLK3 (in), 122 VCC (power), 123 GND (power), 124 CLK0 (in), 125 I0 (in), 126 I1 (in), 135 VCC (power), 136 GND (power)
part A text: Block L; Block K; Block J; Block I; Block A; Block B; Block H; Block C; Block G; Block D; Block E; Block F

## M4LV-192/96-10VI
designator U?
High-Performance EE CMOS In-System Programmable Logic; Published: 23-Sep-2002; LatestRevisionDate: 13-Apr-2006; LatestRevisionNote: IPC-7351 Footprint Added.; DatasheetVersion: Mar-2000; PackageVersion: pkg_32, Aug-2005; PackageReference: TQFP144; Publisher: Altium Limited; PackageDescription: 144-Pin Thin Quad Flat Pack (TQFP144); Code_JEDEC: MS-026-BFB; ComponentLink1Description: Manufacturer Link; ComponentLink1URL: http://www.latticesemi.com/products/mature/index.cfm; ComponentLink2Description: Datasheet; ComponentLink2URL: http://www.latticesemi.com/lit/docs/datasheets/cpld/mach4.pdf
footprint TQFP144_N (Thin QFP, 144-Leads, Body 20x20mm, Pitch 0.5mm, IPC Medium Density)
footprint TQFP144_L (Thin QFP, 144-Leads, Body 20x20mm, Pitch 0.5mm, IPC High Density)
footprint TQFP144_M (Thin QFP, 144-Leads, Body 20x20mm, Pitch 0.5mm, IPC Low Density)
3D model M4LV-TQFP144 (144-Pin Thin Quad Flat Pack (TQFP144))
part A pins: 3 I/O0 D7 (io), 4 I/O1 D6 (io), 5 I/O2 D5 (io), 6 I/O3 D4 (io), 7 I/O4 D3 (io), 8 I/O5 D2 (io), 9 I/O6 D1 (io), 10 I/O7 D0 (io), 16 I/O8 C7 (io), 17 I/O9 C6 (io), 18 I/O10 C5 (io), 19 I/O11 C4 (io), 20 I/O12 C3 (io), 21 I/O13 C2 (io), 22 I/O14 C1 (io), 23 I/O15 C0 (io), 26 I/O16 E7 (io), 27 I/O17 E6 (io), 28 I/O18 E5 (io), 29 I/O19 E4 (io), 30 I/O20 E3 (io), 31 I/O21 E2 (io), 32 I/O22 E1 (io), 33 I/O23 E0 (io), 38 I/O24 F7 (io), 39 I/O25 F6 (io), 40 I/O26 F5 (io), 41 I/O27 F4 (io), 42 I/O28 F3 (io), 43 I/O29 F2 (io), 44 I/O30 F1 (io), 45 I/O31 F0 (io), 55 I/O32 G0 (io), 56 I/O33 G1 (io), 57 I/O34 G2 (io), 58 I/O35 G3 (io), 59 I/O36 G4 (io), 60 I/O37 G5 (io), 61 I/O38 G6 (io), 62 I/O39 G7 (io), 65 I/O40 H0 (io), 66 I/O41 H1 (io), 67 I/O42 H2 (io), 68 I/O43 H3 (io), 69 I/O44 H4 (io), 70 I/O45 H5 (io), 71 I/O46 H6 (io), 72 I/O47 H7 (io), 75 I/O48 I7 (io), 76 I/O49 I6 (io), 77 I/O50 I5 (io), 78 I/O51 I4 (io), 79 I/O52 I3 (io), 80 I/O53 I2 (io), 81 I/O54 I1 (io), 82 I/O55 I0 (io), 85 I/O56 J7 (io), 86 I/O57 J6 (io), 87 I/O58 J5 (io), 88 I/O59 J4 (io), 89 I/O60 J3 (io), 90 I/O61 J2 (io), 91 I/O62 J1 (io), 92 I/O63 J0 (io), 98 I/O64 K7 (io), 99 I/O65 K6 (io), 100 I/O66 K5 (io), 101 I/O67 K4 (io), 102 I/O68 K3 (io), 103 I/O69 K2 (io), 104 I/O70 K1 (io), 105 I/O71 K0 (io), 110 I/O72 L7 (io), 111 I/O73 L6 (io), 112 I/O74 L5 (io), 113 I/O75 L4 (io), 114 I/O76 L3 (io), 115 I/O77 L2 (io), 116 I/O78 L1 (io), 117 I/O79 L0 (io), 127 I/O80 A0 (io), 128 I/O81 A1 (io), 129 I/O82 A2 (io), 130 I/O83 A3 (io), 131 I/O84 A4 (io), 132 I/O85 A5 (io), 133 I/O86 A6 (io), 134 I/O87 A7 (io), 137 I/O88 B0 (io), 138 I/O89 B1 (io), 139 I/O90 B2 (io), 140 I/O91 B3 (io), 141 I/O92 B4 (io), 142 I/O93 B5 (io), 143 I/O94 B6 (io), 144 I/O95 B7 (io)
part B pins: 1 GND (power), 2 TDI (in), 11 I2 (in), 12 I3 (in), 13 VCC (power), 14 GND (power), 15 I4 (in), 24 GND (power), 25 VCC (power), 34 TMS (in), 35 TCK (in), 36 GND (power), 37 GND (power), 46 I5 (in), 47 I6 (in), 48 I7 (in), 49 CLK1 (in), 50 GND (power), 51 VCC (power), 52 CLK2 (in), 53 I8 (in), 54 I9 (in), 63 VCC (power), 64 GND (power), 73 GND (power), 74 NC, 83 VCC (power), 84 GND (power), 93 I10 (in), 94 I11 (in), 95 GND (power), 96 VCC (power), 97 I12 (in), 106 NC, 107 TDO (out), 108 GND (power), 109 GND (power), 118 I13 (in), 119 I14 (in), 120 I15 (in), 121 CLK3 (in), 122 VCC (power), 123 GND (power), 124 CLK0 (in), 125 I0 (in), 126 I1 (in), 135 VCC (power), 136 GND (power)
part A text: Block L; Block K; Block J; Block I; Block A; Block B; Block H; Block C; Block G; Block D; Block E; Block F

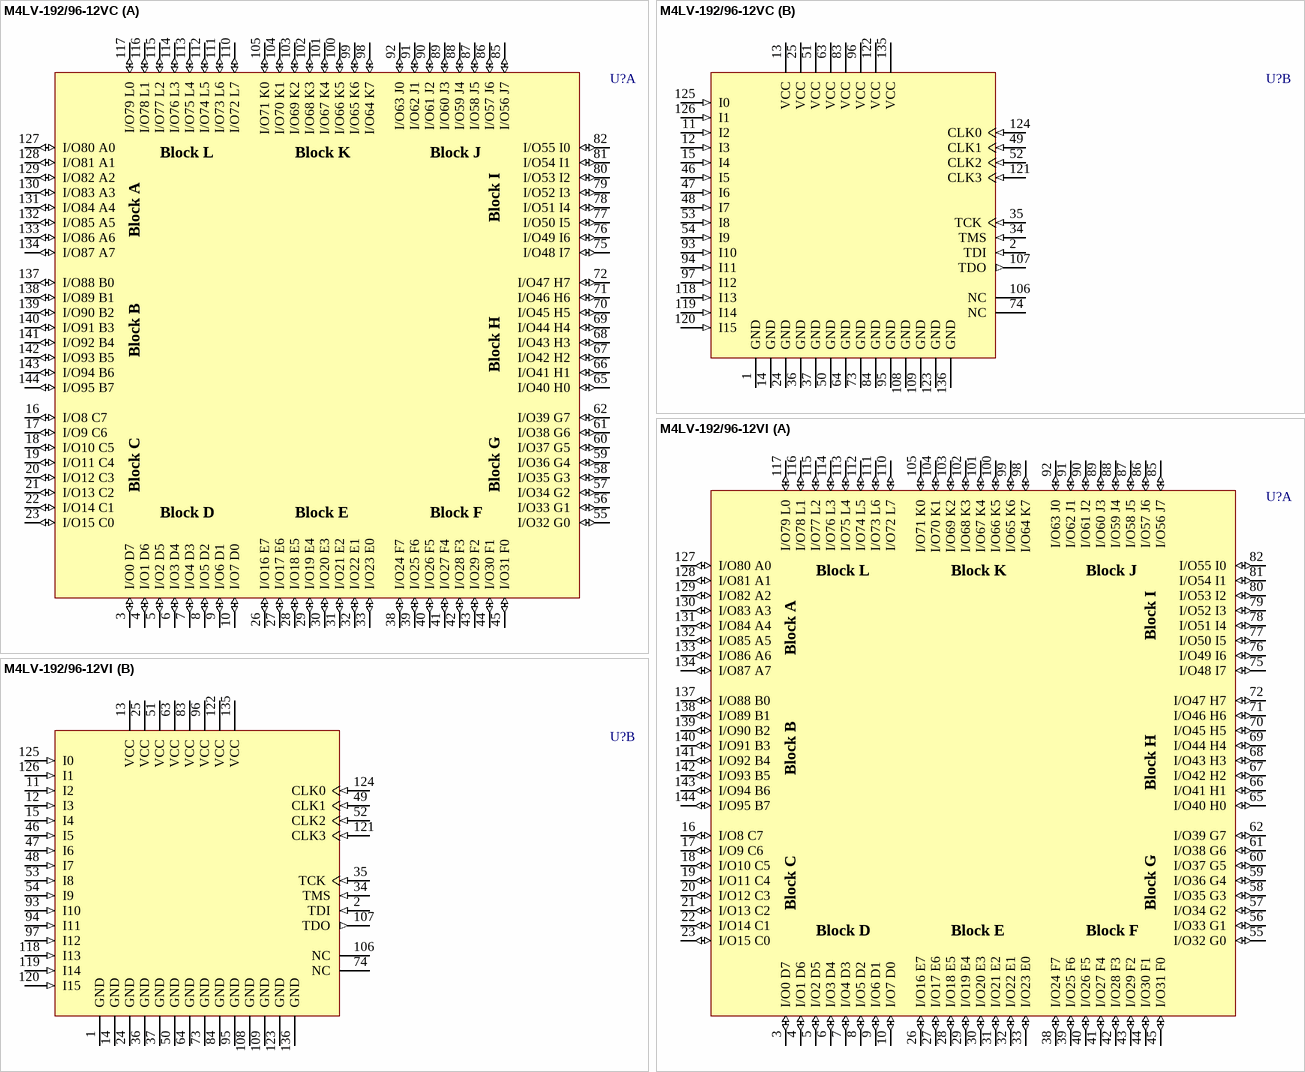
[diagram p144: symbols M4LV-192/96-12VC to M4LV-192/96-12VI]

## M4LV-192/96-12VC
designator U?
High-Performance EE CMOS In-System Programmable Logic; Published: 23-Sep-2002; LatestRevisionDate: 13-Apr-2006; LatestRevisionNote: IPC-7351 Footprint Added.; DatasheetVersion: Mar-2000; PackageVersion: pkg_32, Aug-2005; PackageReference: TQFP144; Publisher: Altium Limited; PackageDescription: 144-Pin Thin Quad Flat Pack (TQFP144); Code_JEDEC: MS-026-BFB; ComponentLink1Description: Manufacturer Link; ComponentLink1URL: http://www.latticesemi.com/products/mature/index.cfm; ComponentLink2Description: Datasheet; ComponentLink2URL: http://www.latticesemi.com/lit/docs/datasheets/cpld/mach4.pdf
footprint TQFP144_N (Thin QFP, 144-Leads, Body 20x20mm, Pitch 0.5mm, IPC Medium Density)
footprint TQFP144_L (Thin QFP, 144-Leads, Body 20x20mm, Pitch 0.5mm, IPC High Density)
footprint TQFP144_M (Thin QFP, 144-Leads, Body 20x20mm, Pitch 0.5mm, IPC Low Density)
3D model M4LV-TQFP144 (144-Pin Thin Quad Flat Pack (TQFP144))
part A pins: 3 I/O0 D7 (io), 4 I/O1 D6 (io), 5 I/O2 D5 (io), 6 I/O3 D4 (io), 7 I/O4 D3 (io), 8 I/O5 D2 (io), 9 I/O6 D1 (io), 10 I/O7 D0 (io), 16 I/O8 C7 (io), 17 I/O9 C6 (io), 18 I/O10 C5 (io), 19 I/O11 C4 (io), 20 I/O12 C3 (io), 21 I/O13 C2 (io), 22 I/O14 C1 (io), 23 I/O15 C0 (io), 26 I/O16 E7 (io), 27 I/O17 E6 (io), 28 I/O18 E5 (io), 29 I/O19 E4 (io), 30 I/O20 E3 (io), 31 I/O21 E2 (io), 32 I/O22 E1 (io), 33 I/O23 E0 (io), 38 I/O24 F7 (io), 39 I/O25 F6 (io), 40 I/O26 F5 (io), 41 I/O27 F4 (io), 42 I/O28 F3 (io), 43 I/O29 F2 (io), 44 I/O30 F1 (io), 45 I/O31 F0 (io), 55 I/O32 G0 (io), 56 I/O33 G1 (io), 57 I/O34 G2 (io), 58 I/O35 G3 (io), 59 I/O36 G4 (io), 60 I/O37 G5 (io), 61 I/O38 G6 (io), 62 I/O39 G7 (io), 65 I/O40 H0 (io), 66 I/O41 H1 (io), 67 I/O42 H2 (io), 68 I/O43 H3 (io), 69 I/O44 H4 (io), 70 I/O45 H5 (io), 71 I/O46 H6 (io), 72 I/O47 H7 (io), 75 I/O48 I7 (io), 76 I/O49 I6 (io), 77 I/O50 I5 (io), 78 I/O51 I4 (io), 79 I/O52 I3 (io), 80 I/O53 I2 (io), 81 I/O54 I1 (io), 82 I/O55 I0 (io), 85 I/O56 J7 (io), 86 I/O57 J6 (io), 87 I/O58 J5 (io), 88 I/O59 J4 (io), 89 I/O60 J3 (io), 90 I/O61 J2 (io), 91 I/O62 J1 (io), 92 I/O63 J0 (io), 98 I/O64 K7 (io), 99 I/O65 K6 (io), 100 I/O66 K5 (io), 101 I/O67 K4 (io), 102 I/O68 K3 (io), 103 I/O69 K2 (io), 104 I/O70 K1 (io), 105 I/O71 K0 (io), 110 I/O72 L7 (io), 111 I/O73 L6 (io), 112 I/O74 L5 (io), 113 I/O75 L4 (io), 114 I/O76 L3 (io), 115 I/O77 L2 (io), 116 I/O78 L1 (io), 117 I/O79 L0 (io), 127 I/O80 A0 (io), 128 I/O81 A1 (io), 129 I/O82 A2 (io), 130 I/O83 A3 (io), 131 I/O84 A4 (io), 132 I/O85 A5 (io), 133 I/O86 A6 (io), 134 I/O87 A7 (io), 137 I/O88 B0 (io), 138 I/O89 B1 (io), 139 I/O90 B2 (io), 140 I/O91 B3 (io), 141 I/O92 B4 (io), 142 I/O93 B5 (io), 143 I/O94 B6 (io), 144 I/O95 B7 (io)
part B pins: 1 GND (power), 2 TDI (in), 11 I2 (in), 12 I3 (in), 13 VCC (power), 14 GND (power), 15 I4 (in), 24 GND (power), 25 VCC (power), 34 TMS (in), 35 TCK (in), 36 GND (power), 37 GND (power), 46 I5 (in), 47 I6 (in), 48 I7 (in), 49 CLK1 (in), 50 GND (power), 51 VCC (power), 52 CLK2 (in), 53 I8 (in), 54 I9 (in), 63 VCC (power), 64 GND (power), 73 GND (power), 74 NC, 83 VCC (power), 84 GND (power), 93 I10 (in), 94 I11 (in), 95 GND (power), 96 VCC (power), 97 I12 (in), 106 NC, 107 TDO (out), 108 GND (power), 109 GND (power), 118 I13 (in), 119 I14 (in), 120 I15 (in), 121 CLK3 (in), 122 VCC (power), 123 GND (power), 124 CLK0 (in), 125 I0 (in), 126 I1 (in), 135 VCC (power), 136 GND (power)
part A text: Block L; Block K; Block J; Block I; Block A; Block B; Block H; Block C; Block G; Block D; Block E; Block F

## M4LV-192/96-12VI
designator U?
High-Performance EE CMOS In-System Programmable Logic; Published: 23-Sep-2002; LatestRevisionDate: 13-Apr-2006; LatestRevisionNote: IPC-7351 Footprint Added.; DatasheetVersion: Mar-2000; PackageVersion: pkg_32, Aug-2005; PackageReference: TQFP144; Publisher: Altium Limited; PackageDescription: 144-Pin Thin Quad Flat Pack (TQFP144); Code_JEDEC: MS-026-BFB; ComponentLink1Description: Manufacturer Link; ComponentLink1URL: http://www.latticesemi.com/products/mature/index.cfm; ComponentLink2Description: Datasheet; ComponentLink2URL: http://www.latticesemi.com/lit/docs/datasheets/cpld/mach4.pdf
footprint TQFP144_N (Thin QFP, 144-Leads, Body 20x20mm, Pitch 0.5mm, IPC Medium Density)
footprint TQFP144_L (Thin QFP, 144-Leads, Body 20x20mm, Pitch 0.5mm, IPC High Density)
footprint TQFP144_M (Thin QFP, 144-Leads, Body 20x20mm, Pitch 0.5mm, IPC Low Density)
3D model M4LV-TQFP144 (144-Pin Thin Quad Flat Pack (TQFP144))
part A pins: 3 I/O0 D7 (io), 4 I/O1 D6 (io), 5 I/O2 D5 (io), 6 I/O3 D4 (io), 7 I/O4 D3 (io), 8 I/O5 D2 (io), 9 I/O6 D1 (io), 10 I/O7 D0 (io), 16 I/O8 C7 (io), 17 I/O9 C6 (io), 18 I/O10 C5 (io), 19 I/O11 C4 (io), 20 I/O12 C3 (io), 21 I/O13 C2 (io), 22 I/O14 C1 (io), 23 I/O15 C0 (io), 26 I/O16 E7 (io), 27 I/O17 E6 (io), 28 I/O18 E5 (io), 29 I/O19 E4 (io), 30 I/O20 E3 (io), 31 I/O21 E2 (io), 32 I/O22 E1 (io), 33 I/O23 E0 (io), 38 I/O24 F7 (io), 39 I/O25 F6 (io), 40 I/O26 F5 (io), 41 I/O27 F4 (io), 42 I/O28 F3 (io), 43 I/O29 F2 (io), 44 I/O30 F1 (io), 45 I/O31 F0 (io), 55 I/O32 G0 (io), 56 I/O33 G1 (io), 57 I/O34 G2 (io), 58 I/O35 G3 (io), 59 I/O36 G4 (io), 60 I/O37 G5 (io), 61 I/O38 G6 (io), 62 I/O39 G7 (io), 65 I/O40 H0 (io), 66 I/O41 H1 (io), 67 I/O42 H2 (io), 68 I/O43 H3 (io), 69 I/O44 H4 (io), 70 I/O45 H5 (io), 71 I/O46 H6 (io), 72 I/O47 H7 (io), 75 I/O48 I7 (io), 76 I/O49 I6 (io), 77 I/O50 I5 (io), 78 I/O51 I4 (io), 79 I/O52 I3 (io), 80 I/O53 I2 (io), 81 I/O54 I1 (io), 82 I/O55 I0 (io), 85 I/O56 J7 (io), 86 I/O57 J6 (io), 87 I/O58 J5 (io), 88 I/O59 J4 (io), 89 I/O60 J3 (io), 90 I/O61 J2 (io), 91 I/O62 J1 (io), 92 I/O63 J0 (io), 98 I/O64 K7 (io), 99 I/O65 K6 (io), 100 I/O66 K5 (io), 101 I/O67 K4 (io), 102 I/O68 K3 (io), 103 I/O69 K2 (io), 104 I/O70 K1 (io), 105 I/O71 K0 (io), 110 I/O72 L7 (io), 111 I/O73 L6 (io), 112 I/O74 L5 (io), 113 I/O75 L4 (io), 114 I/O76 L3 (io), 115 I/O77 L2 (io), 116 I/O78 L1 (io), 117 I/O79 L0 (io), 127 I/O80 A0 (io), 128 I/O81 A1 (io), 129 I/O82 A2 (io), 130 I/O83 A3 (io), 131 I/O84 A4 (io), 132 I/O85 A5 (io), 133 I/O86 A6 (io), 134 I/O87 A7 (io), 137 I/O88 B0 (io), 138 I/O89 B1 (io), 139 I/O90 B2 (io), 140 I/O91 B3 (io), 141 I/O92 B4 (io), 142 I/O93 B5 (io), 143 I/O94 B6 (io), 144 I/O95 B7 (io)
part B pins: 1 GND (power), 2 TDI (in), 11 I2 (in), 12 I3 (in), 13 VCC (power), 14 GND (power), 15 I4 (in), 24 GND (power), 25 VCC (power), 34 TMS (in), 35 TCK (in), 36 GND (power), 37 GND (power), 46 I5 (in), 47 I6 (in), 48 I7 (in), 49 CLK1 (in), 50 GND (power), 51 VCC (power), 52 CLK2 (in), 53 I8 (in), 54 I9 (in), 63 VCC (power), 64 GND (power), 73 GND (power), 74 NC, 83 VCC (power), 84 GND (power), 93 I10 (in), 94 I11 (in), 95 GND (power), 96 VCC (power), 97 I12 (in), 106 NC, 107 TDO (out), 108 GND (power), 109 GND (power), 118 I13 (in), 119 I14 (in), 120 I15 (in), 121 CLK3 (in), 122 VCC (power), 123 GND (power), 124 CLK0 (in), 125 I0 (in), 126 I1 (in), 135 VCC (power), 136 GND (power)
part A text: Block L; Block K; Block J; Block I; Block A; Block B; Block H; Block C; Block G; Block D; Block E; Block F

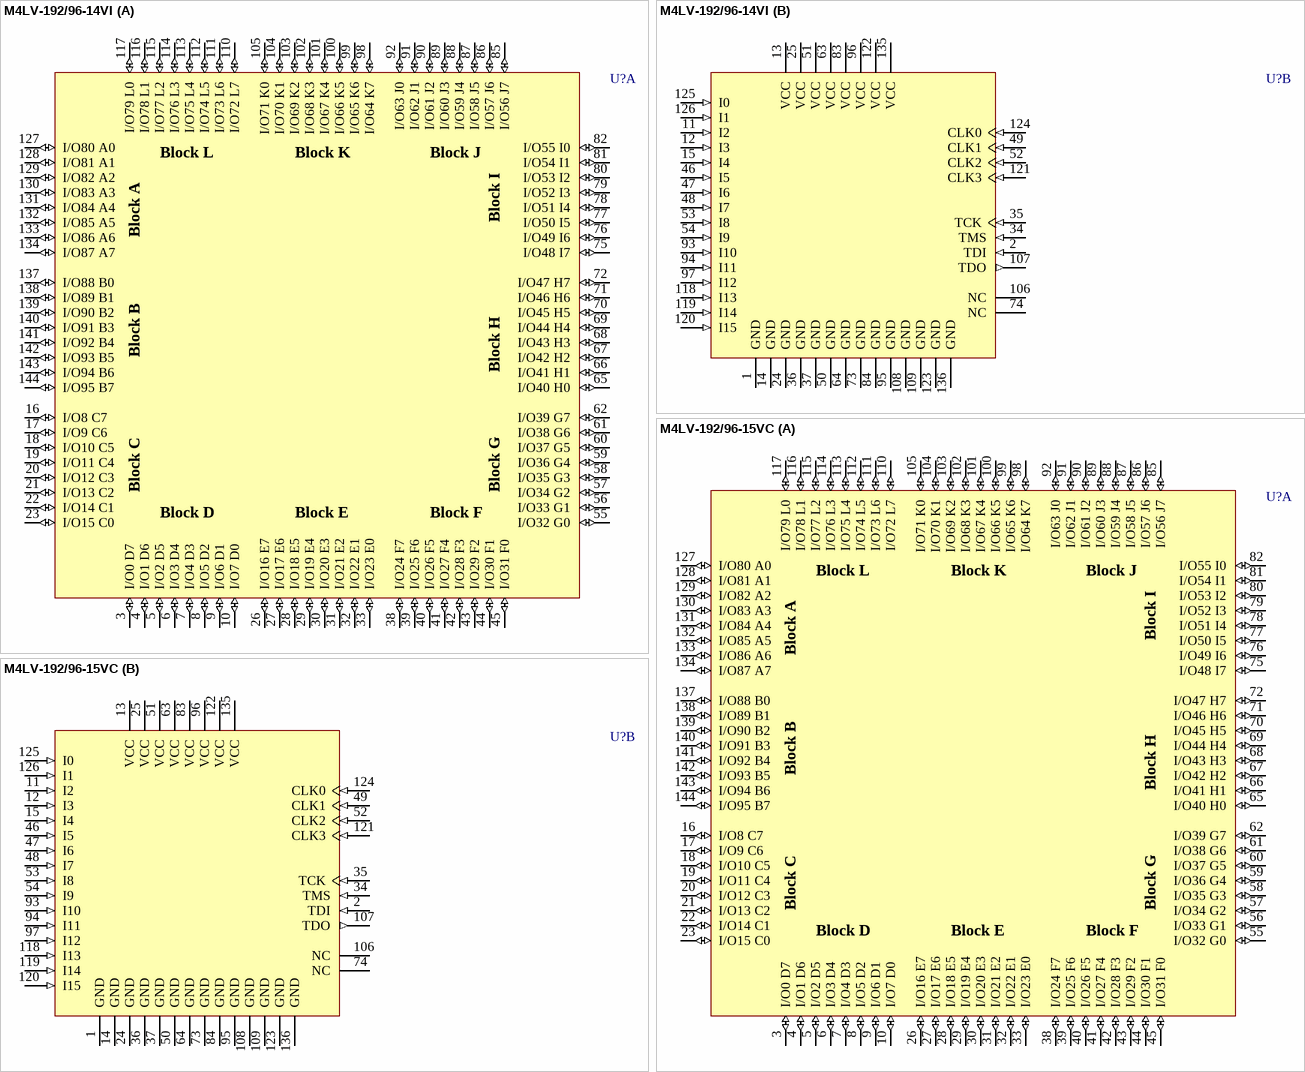
[diagram p145: symbols M4LV-192/96-14VI to M4LV-192/96-15VC]

## M4LV-192/96-14VI
designator U?
High-Performance EE CMOS In-System Programmable Logic; Published: 23-Sep-2002; LatestRevisionDate: 13-Apr-2006; LatestRevisionNote: IPC-7351 Footprint Added.; DatasheetVersion: Mar-2000; PackageVersion: pkg_32, Aug-2005; PackageReference: TQFP144; Publisher: Altium Limited; PackageDescription: 144-Pin Thin Quad Flat Pack (TQFP144); Code_JEDEC: MS-026-BFB; ComponentLink1Description: Manufacturer Link; ComponentLink1URL: http://www.latticesemi.com/products/mature/index.cfm; ComponentLink2Description: Datasheet; ComponentLink2URL: http://www.latticesemi.com/lit/docs/datasheets/cpld/mach4.pdf
footprint TQFP144_N (Thin QFP, 144-Leads, Body 20x20mm, Pitch 0.5mm, IPC Medium Density)
footprint TQFP144_L (Thin QFP, 144-Leads, Body 20x20mm, Pitch 0.5mm, IPC High Density)
footprint TQFP144_M (Thin QFP, 144-Leads, Body 20x20mm, Pitch 0.5mm, IPC Low Density)
3D model M4LV-TQFP144 (144-Pin Thin Quad Flat Pack (TQFP144))
part A pins: 3 I/O0 D7 (io), 4 I/O1 D6 (io), 5 I/O2 D5 (io), 6 I/O3 D4 (io), 7 I/O4 D3 (io), 8 I/O5 D2 (io), 9 I/O6 D1 (io), 10 I/O7 D0 (io), 16 I/O8 C7 (io), 17 I/O9 C6 (io), 18 I/O10 C5 (io), 19 I/O11 C4 (io), 20 I/O12 C3 (io), 21 I/O13 C2 (io), 22 I/O14 C1 (io), 23 I/O15 C0 (io), 26 I/O16 E7 (io), 27 I/O17 E6 (io), 28 I/O18 E5 (io), 29 I/O19 E4 (io), 30 I/O20 E3 (io), 31 I/O21 E2 (io), 32 I/O22 E1 (io), 33 I/O23 E0 (io), 38 I/O24 F7 (io), 39 I/O25 F6 (io), 40 I/O26 F5 (io), 41 I/O27 F4 (io), 42 I/O28 F3 (io), 43 I/O29 F2 (io), 44 I/O30 F1 (io), 45 I/O31 F0 (io), 55 I/O32 G0 (io), 56 I/O33 G1 (io), 57 I/O34 G2 (io), 58 I/O35 G3 (io), 59 I/O36 G4 (io), 60 I/O37 G5 (io), 61 I/O38 G6 (io), 62 I/O39 G7 (io), 65 I/O40 H0 (io), 66 I/O41 H1 (io), 67 I/O42 H2 (io), 68 I/O43 H3 (io), 69 I/O44 H4 (io), 70 I/O45 H5 (io), 71 I/O46 H6 (io), 72 I/O47 H7 (io), 75 I/O48 I7 (io), 76 I/O49 I6 (io), 77 I/O50 I5 (io), 78 I/O51 I4 (io), 79 I/O52 I3 (io), 80 I/O53 I2 (io), 81 I/O54 I1 (io), 82 I/O55 I0 (io), 85 I/O56 J7 (io), 86 I/O57 J6 (io), 87 I/O58 J5 (io), 88 I/O59 J4 (io), 89 I/O60 J3 (io), 90 I/O61 J2 (io), 91 I/O62 J1 (io), 92 I/O63 J0 (io), 98 I/O64 K7 (io), 99 I/O65 K6 (io), 100 I/O66 K5 (io), 101 I/O67 K4 (io), 102 I/O68 K3 (io), 103 I/O69 K2 (io), 104 I/O70 K1 (io), 105 I/O71 K0 (io), 110 I/O72 L7 (io), 111 I/O73 L6 (io), 112 I/O74 L5 (io), 113 I/O75 L4 (io), 114 I/O76 L3 (io), 115 I/O77 L2 (io), 116 I/O78 L1 (io), 117 I/O79 L0 (io), 127 I/O80 A0 (io), 128 I/O81 A1 (io), 129 I/O82 A2 (io), 130 I/O83 A3 (io), 131 I/O84 A4 (io), 132 I/O85 A5 (io), 133 I/O86 A6 (io), 134 I/O87 A7 (io), 137 I/O88 B0 (io), 138 I/O89 B1 (io), 139 I/O90 B2 (io), 140 I/O91 B3 (io), 141 I/O92 B4 (io), 142 I/O93 B5 (io), 143 I/O94 B6 (io), 144 I/O95 B7 (io)
part B pins: 1 GND (power), 2 TDI (in), 11 I2 (in), 12 I3 (in), 13 VCC (power), 14 GND (power), 15 I4 (in), 24 GND (power), 25 VCC (power), 34 TMS (in), 35 TCK (in), 36 GND (power), 37 GND (power), 46 I5 (in), 47 I6 (in), 48 I7 (in), 49 CLK1 (in), 50 GND (power), 51 VCC (power), 52 CLK2 (in), 53 I8 (in), 54 I9 (in), 63 VCC (power), 64 GND (power), 73 GND (power), 74 NC, 83 VCC (power), 84 GND (power), 93 I10 (in), 94 I11 (in), 95 GND (power), 96 VCC (power), 97 I12 (in), 106 NC, 107 TDO (out), 108 GND (power), 109 GND (power), 118 I13 (in), 119 I14 (in), 120 I15 (in), 121 CLK3 (in), 122 VCC (power), 123 GND (power), 124 CLK0 (in), 125 I0 (in), 126 I1 (in), 135 VCC (power), 136 GND (power)
part A text: Block L; Block K; Block J; Block I; Block A; Block B; Block H; Block C; Block G; Block D; Block E; Block F

## M4LV-192/96-15VC
designator U?
High-Performance EE CMOS In-System Programmable Logic; Published: 23-Sep-2002; LatestRevisionDate: 13-Apr-2006; LatestRevisionNote: IPC-7351 Footprint Added.; DatasheetVersion: Mar-2000; PackageVersion: pkg_32, Aug-2005; PackageReference: TQFP144; Publisher: Altium Limited; PackageDescription: 144-Pin Thin Quad Flat Pack (TQFP144); Code_JEDEC: MS-026-BFB; ComponentLink1Description: Manufacturer Link; ComponentLink1URL: http://www.latticesemi.com/products/mature/index.cfm; ComponentLink2Description: Datasheet; ComponentLink2URL: http://www.latticesemi.com/lit/docs/datasheets/cpld/mach4.pdf
footprint TQFP144_N (Thin QFP, 144-Leads, Body 20x20mm, Pitch 0.5mm, IPC Medium Density)
footprint TQFP144_L (Thin QFP, 144-Leads, Body 20x20mm, Pitch 0.5mm, IPC High Density)
footprint TQFP144_M (Thin QFP, 144-Leads, Body 20x20mm, Pitch 0.5mm, IPC Low Density)
3D model M4LV-TQFP144 (144-Pin Thin Quad Flat Pack (TQFP144))
part A pins: 3 I/O0 D7 (io), 4 I/O1 D6 (io), 5 I/O2 D5 (io), 6 I/O3 D4 (io), 7 I/O4 D3 (io), 8 I/O5 D2 (io), 9 I/O6 D1 (io), 10 I/O7 D0 (io), 16 I/O8 C7 (io), 17 I/O9 C6 (io), 18 I/O10 C5 (io), 19 I/O11 C4 (io), 20 I/O12 C3 (io), 21 I/O13 C2 (io), 22 I/O14 C1 (io), 23 I/O15 C0 (io), 26 I/O16 E7 (io), 27 I/O17 E6 (io), 28 I/O18 E5 (io), 29 I/O19 E4 (io), 30 I/O20 E3 (io), 31 I/O21 E2 (io), 32 I/O22 E1 (io), 33 I/O23 E0 (io), 38 I/O24 F7 (io), 39 I/O25 F6 (io), 40 I/O26 F5 (io), 41 I/O27 F4 (io), 42 I/O28 F3 (io), 43 I/O29 F2 (io), 44 I/O30 F1 (io), 45 I/O31 F0 (io), 55 I/O32 G0 (io), 56 I/O33 G1 (io), 57 I/O34 G2 (io), 58 I/O35 G3 (io), 59 I/O36 G4 (io), 60 I/O37 G5 (io), 61 I/O38 G6 (io), 62 I/O39 G7 (io), 65 I/O40 H0 (io), 66 I/O41 H1 (io), 67 I/O42 H2 (io), 68 I/O43 H3 (io), 69 I/O44 H4 (io), 70 I/O45 H5 (io), 71 I/O46 H6 (io), 72 I/O47 H7 (io), 75 I/O48 I7 (io), 76 I/O49 I6 (io), 77 I/O50 I5 (io), 78 I/O51 I4 (io), 79 I/O52 I3 (io), 80 I/O53 I2 (io), 81 I/O54 I1 (io), 82 I/O55 I0 (io), 85 I/O56 J7 (io), 86 I/O57 J6 (io), 87 I/O58 J5 (io), 88 I/O59 J4 (io), 89 I/O60 J3 (io), 90 I/O61 J2 (io), 91 I/O62 J1 (io), 92 I/O63 J0 (io), 98 I/O64 K7 (io), 99 I/O65 K6 (io), 100 I/O66 K5 (io), 101 I/O67 K4 (io), 102 I/O68 K3 (io), 103 I/O69 K2 (io), 104 I/O70 K1 (io), 105 I/O71 K0 (io), 110 I/O72 L7 (io), 111 I/O73 L6 (io), 112 I/O74 L5 (io), 113 I/O75 L4 (io), 114 I/O76 L3 (io), 115 I/O77 L2 (io), 116 I/O78 L1 (io), 117 I/O79 L0 (io), 127 I/O80 A0 (io), 128 I/O81 A1 (io), 129 I/O82 A2 (io), 130 I/O83 A3 (io), 131 I/O84 A4 (io), 132 I/O85 A5 (io), 133 I/O86 A6 (io), 134 I/O87 A7 (io), 137 I/O88 B0 (io), 138 I/O89 B1 (io), 139 I/O90 B2 (io), 140 I/O91 B3 (io), 141 I/O92 B4 (io), 142 I/O93 B5 (io), 143 I/O94 B6 (io), 144 I/O95 B7 (io)
part B pins: 1 GND (power), 2 TDI (in), 11 I2 (in), 12 I3 (in), 13 VCC (power), 14 GND (power), 15 I4 (in), 24 GND (power), 25 VCC (power), 34 TMS (in), 35 TCK (in), 36 GND (power), 37 GND (power), 46 I5 (in), 47 I6 (in), 48 I7 (in), 49 CLK1 (in), 50 GND (power), 51 VCC (power), 52 CLK2 (in), 53 I8 (in), 54 I9 (in), 63 VCC (power), 64 GND (power), 73 GND (power), 74 NC, 83 VCC (power), 84 GND (power), 93 I10 (in), 94 I11 (in), 95 GND (power), 96 VCC (power), 97 I12 (in), 106 NC, 107 TDO (out), 108 GND (power), 109 GND (power), 118 I13 (in), 119 I14 (in), 120 I15 (in), 121 CLK3 (in), 122 VCC (power), 123 GND (power), 124 CLK0 (in), 125 I0 (in), 126 I1 (in), 135 VCC (power), 136 GND (power)
part A text: Block L; Block K; Block J; Block I; Block A; Block B; Block H; Block C; Block G; Block D; Block E; Block F

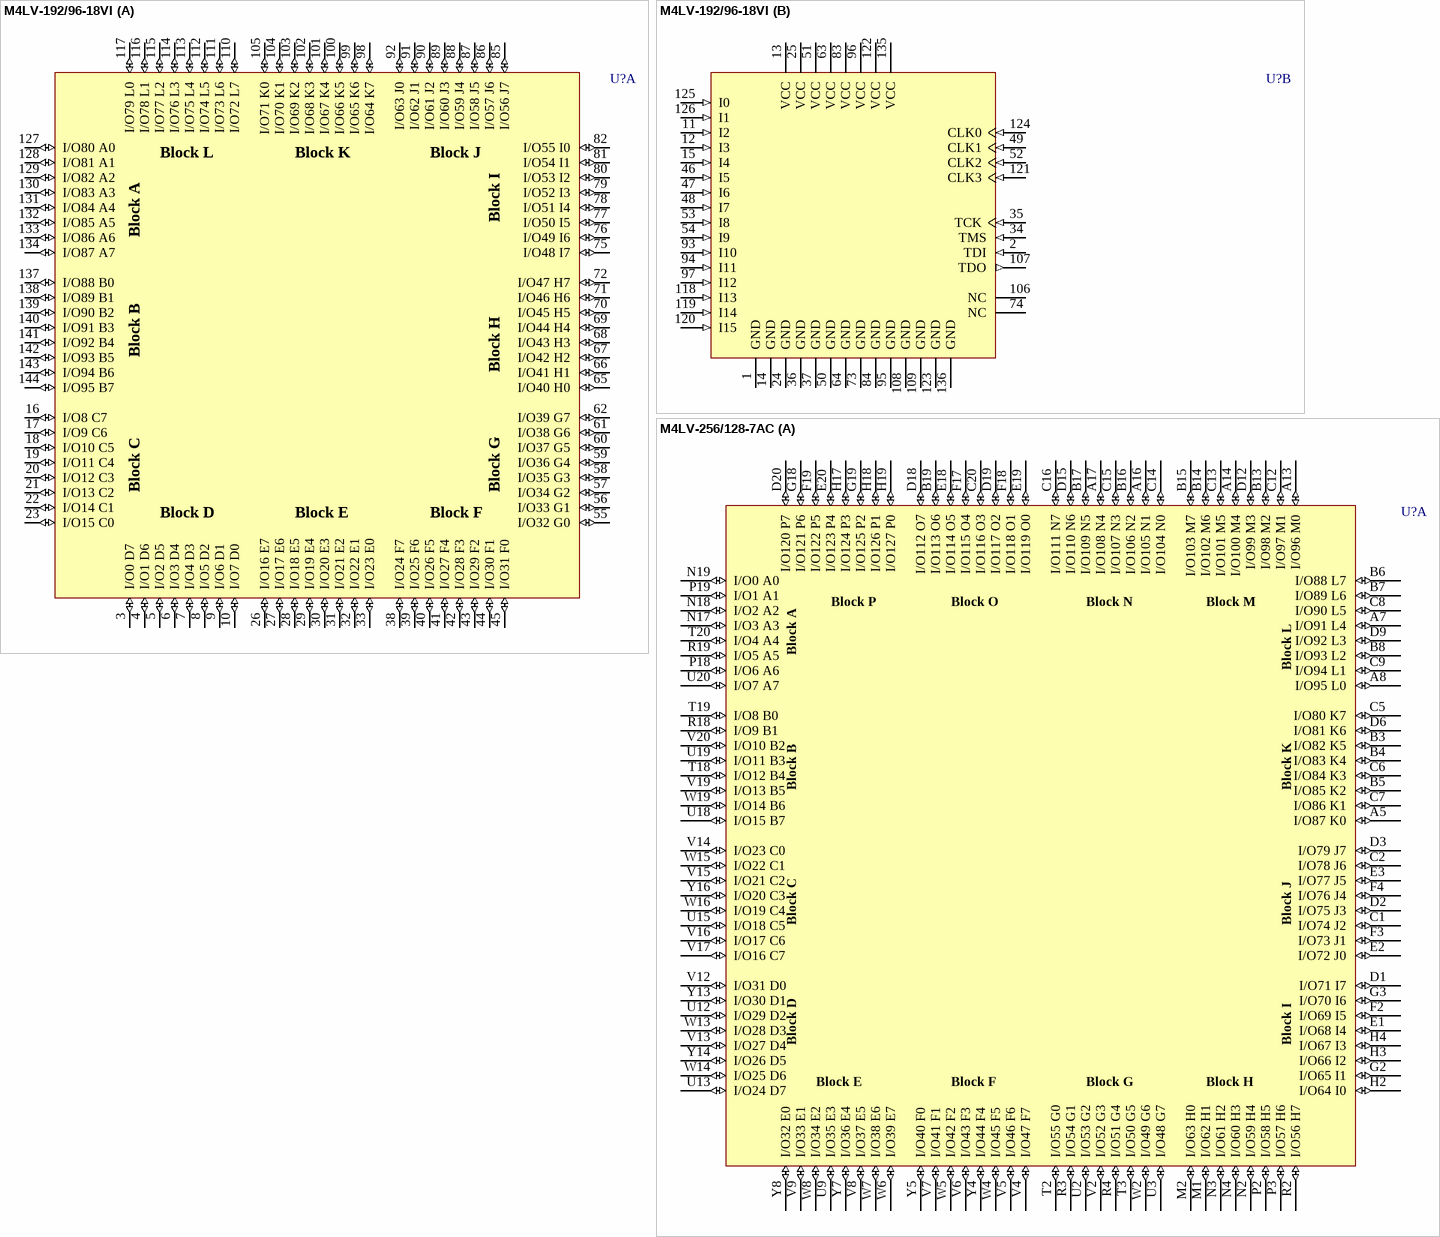
[diagram p146: symbols M4LV-192/96-18VI to M4LV-256/128-7AC]

## M4LV-192/96-18VI
designator U?
High-Performance EE CMOS In-System Programmable Logic; Published: 23-Sep-2002; LatestRevisionDate: 13-Apr-2006; LatestRevisionNote: IPC-7351 Footprint Added.; DatasheetVersion: Mar-2000; PackageVersion: pkg_32, Aug-2005; PackageReference: TQFP144; Publisher: Altium Limited; PackageDescription: 144-Pin Thin Quad Flat Pack (TQFP144); Code_JEDEC: MS-026-BFB; ComponentLink1Description: Manufacturer Link; ComponentLink1URL: http://www.latticesemi.com/products/mature/index.cfm; ComponentLink2Description: Datasheet; ComponentLink2URL: http://www.latticesemi.com/lit/docs/datasheets/cpld/mach4.pdf
footprint TQFP144_N (Thin QFP, 144-Leads, Body 20x20mm, Pitch 0.5mm, IPC Medium Density)
footprint TQFP144_L (Thin QFP, 144-Leads, Body 20x20mm, Pitch 0.5mm, IPC High Density)
footprint TQFP144_M (Thin QFP, 144-Leads, Body 20x20mm, Pitch 0.5mm, IPC Low Density)
3D model M4LV-TQFP144 (144-Pin Thin Quad Flat Pack (TQFP144))
part A pins: 3 I/O0 D7 (io), 4 I/O1 D6 (io), 5 I/O2 D5 (io), 6 I/O3 D4 (io), 7 I/O4 D3 (io), 8 I/O5 D2 (io), 9 I/O6 D1 (io), 10 I/O7 D0 (io), 16 I/O8 C7 (io), 17 I/O9 C6 (io), 18 I/O10 C5 (io), 19 I/O11 C4 (io), 20 I/O12 C3 (io), 21 I/O13 C2 (io), 22 I/O14 C1 (io), 23 I/O15 C0 (io), 26 I/O16 E7 (io), 27 I/O17 E6 (io), 28 I/O18 E5 (io), 29 I/O19 E4 (io), 30 I/O20 E3 (io), 31 I/O21 E2 (io), 32 I/O22 E1 (io), 33 I/O23 E0 (io), 38 I/O24 F7 (io), 39 I/O25 F6 (io), 40 I/O26 F5 (io), 41 I/O27 F4 (io), 42 I/O28 F3 (io), 43 I/O29 F2 (io), 44 I/O30 F1 (io), 45 I/O31 F0 (io), 55 I/O32 G0 (io), 56 I/O33 G1 (io), 57 I/O34 G2 (io), 58 I/O35 G3 (io), 59 I/O36 G4 (io), 60 I/O37 G5 (io), 61 I/O38 G6 (io), 62 I/O39 G7 (io), 65 I/O40 H0 (io), 66 I/O41 H1 (io), 67 I/O42 H2 (io), 68 I/O43 H3 (io), 69 I/O44 H4 (io), 70 I/O45 H5 (io), 71 I/O46 H6 (io), 72 I/O47 H7 (io), 75 I/O48 I7 (io), 76 I/O49 I6 (io), 77 I/O50 I5 (io), 78 I/O51 I4 (io), 79 I/O52 I3 (io), 80 I/O53 I2 (io), 81 I/O54 I1 (io), 82 I/O55 I0 (io), 85 I/O56 J7 (io), 86 I/O57 J6 (io), 87 I/O58 J5 (io), 88 I/O59 J4 (io), 89 I/O60 J3 (io), 90 I/O61 J2 (io), 91 I/O62 J1 (io), 92 I/O63 J0 (io), 98 I/O64 K7 (io), 99 I/O65 K6 (io), 100 I/O66 K5 (io), 101 I/O67 K4 (io), 102 I/O68 K3 (io), 103 I/O69 K2 (io), 104 I/O70 K1 (io), 105 I/O71 K0 (io), 110 I/O72 L7 (io), 111 I/O73 L6 (io), 112 I/O74 L5 (io), 113 I/O75 L4 (io), 114 I/O76 L3 (io), 115 I/O77 L2 (io), 116 I/O78 L1 (io), 117 I/O79 L0 (io), 127 I/O80 A0 (io), 128 I/O81 A1 (io), 129 I/O82 A2 (io), 130 I/O83 A3 (io), 131 I/O84 A4 (io), 132 I/O85 A5 (io), 133 I/O86 A6 (io), 134 I/O87 A7 (io), 137 I/O88 B0 (io), 138 I/O89 B1 (io), 139 I/O90 B2 (io), 140 I/O91 B3 (io), 141 I/O92 B4 (io), 142 I/O93 B5 (io), 143 I/O94 B6 (io), 144 I/O95 B7 (io)
part B pins: 1 GND (power), 2 TDI (in), 11 I2 (in), 12 I3 (in), 13 VCC (power), 14 GND (power), 15 I4 (in), 24 GND (power), 25 VCC (power), 34 TMS (in), 35 TCK (in), 36 GND (power), 37 GND (power), 46 I5 (in), 47 I6 (in), 48 I7 (in), 49 CLK1 (in), 50 GND (power), 51 VCC (power), 52 CLK2 (in), 53 I8 (in), 54 I9 (in), 63 VCC (power), 64 GND (power), 73 GND (power), 74 NC, 83 VCC (power), 84 GND (power), 93 I10 (in), 94 I11 (in), 95 GND (power), 96 VCC (power), 97 I12 (in), 106 NC, 107 TDO (out), 108 GND (power), 109 GND (power), 118 I13 (in), 119 I14 (in), 120 I15 (in), 121 CLK3 (in), 122 VCC (power), 123 GND (power), 124 CLK0 (in), 125 I0 (in), 126 I1 (in), 135 VCC (power), 136 GND (power)
part A text: Block L; Block K; Block J; Block I; Block A; Block B; Block H; Block C; Block G; Block D; Block E; Block F

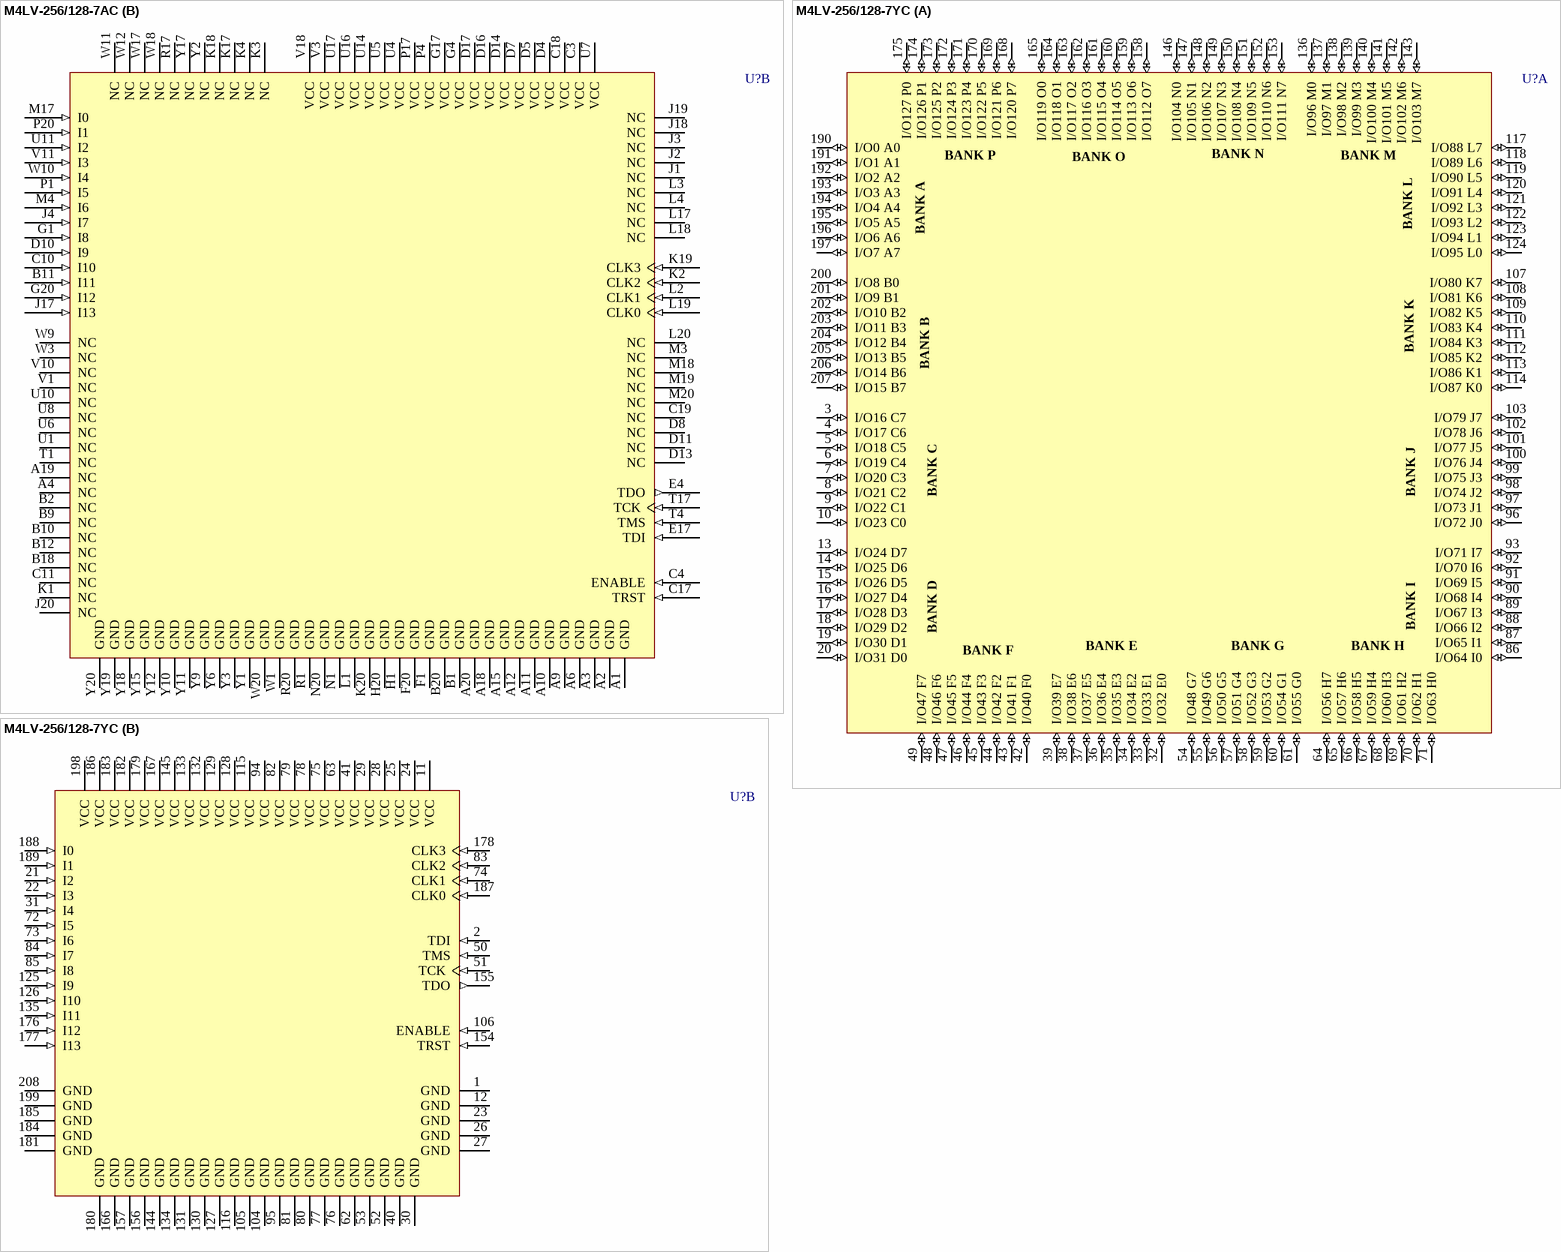
[diagram p147: symbols M4LV-256/128-7AC to M4LV-256/128-7YC]